# Altium schematic symbol library Compilation.SchLib: 307 symbols (part 3 of 4)
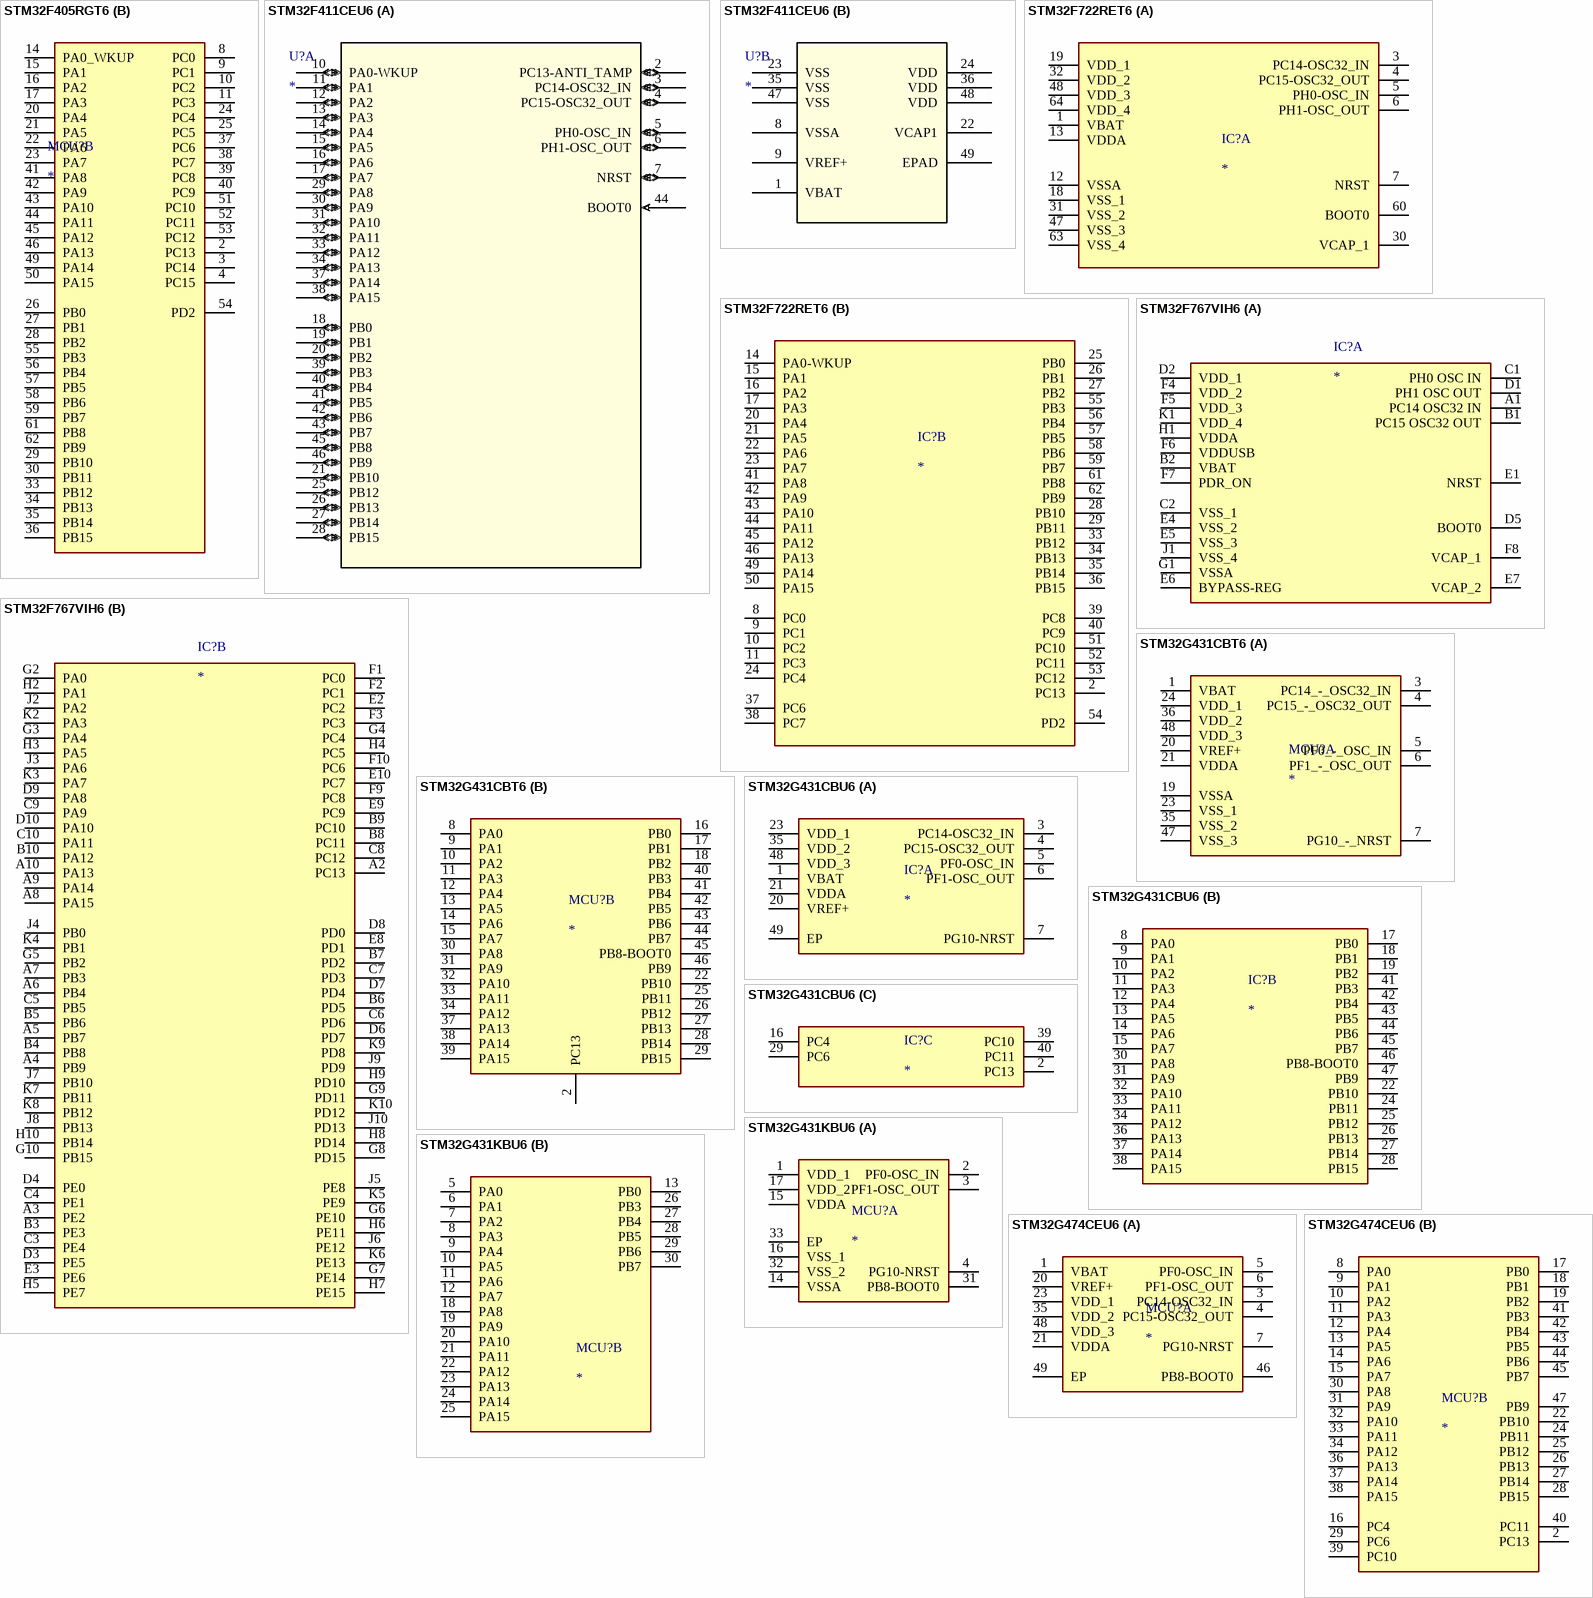
[diagram p19: symbols STM32F405RGT6 to STM32G474CEU6]

## STM32G431KBU6
designator MCU?
MCU; Manufacturer_Name: STMicroelectronics; Manufacturer_Part_Number: STM32G431KBU6; Datasheet Link: https://www.st.com/resource/en/datasheet/stm32g431kb.pdf; Height: 0.6mm; Mouser Part Number: 511-STM32G431KBU6; Mouser Price/Stock: https://www.mouser.co.uk/ProductDetail/STMicroelectronics/STM32G431KBU6?qs=T3oQrply3y%2Frk9w4R%2FCLxg%3D%3D; Arrow Part Number: STM32G431KBU6; Arrow Price/Stock: https://www.arrow.com/en/products/stm32g431kbu6/stmicroelectronics?region=nac
footprint UFQFPN32
part A pins: 1 VDD_1, 2 PF0-OSC_IN, 3 PF1-OSC_OUT, 4 PG10-NRST, 14 VSSA, 15 VDDA, 16 VSS_1, 17 VDD_2, 31 PB8-BOOT0, 32 VSS_2, 33 EP
part B pins: 5 PA0, 6 PA1, 7 PA2, 8 PA3, 9 PA4, 10 PA5, 11 PA6, 12 PA7, 13 PB0, 18 PA8, 19 PA9, 20 PA10, 21 PA11, 22 PA12, 23 PA13, 24 PA14, 25 PA15, 26 PB3, 27 PB4, 28 PB5, 29 PB6, 30 PB7

## STM32G474CEU6
designator MCU?
MCU; Manufacturer_Name: STMicroelectronics; Manufacturer_Part_Number: STM32G474CEU6; Datasheet Link: https://www.st.com/resource/en/datasheet/stm32g474ce.pdf; Height: 0.6mm; Mouser Part Number: 511-STM32G474CEU6; Mouser Price/Stock: https://www.mouser.co.uk/ProductDetail/STMicroelectronics/STM32G474CEU6?qs=PzGy0jfpSMvczLLzMNbcpg%3D%3D; Arrow Part Number: STM32G474CEU6; Arrow Price/Stock: https://www.arrow.com/en/products/stm32g474ceu6/stmicroelectronics?region=nac
footprint UFQFPN48
part A pins: 1 VBAT, 3 PC14-OSC32_IN, 4 PC15-OSC32_OUT, 5 PF0-OSC_IN, 6 PF1-OSC_OUT, 7 PG10-NRST, 20 VREF+, 21 VDDA, 23 VDD_1, 35 VDD_2, 46 PB8-BOOT0, 48 VDD_3, 49 EP
part B pins: 2 PC13, 8 PA0, 9 PA1, 10 PA2, 11 PA3, 12 PA4, 13 PA5, 14 PA6, 15 PA7, 16 PC4, 17 PB0, 18 PB1, 19 PB2, 22 PB10, 24 PB11, 25 PB12, 26 PB13, 27 PB14, 28 PB15, 29 PC6, 30 PA8, 31 PA9, 32 PA10, 33 PA11, 34 PA12, 36 PA13, 37 PA14, 38 PA15, 39 PC10, 40 PC11, 41 PB3, 42 PB4, 43 PB5, 44 PB6, 45 PB7, 47 PB9

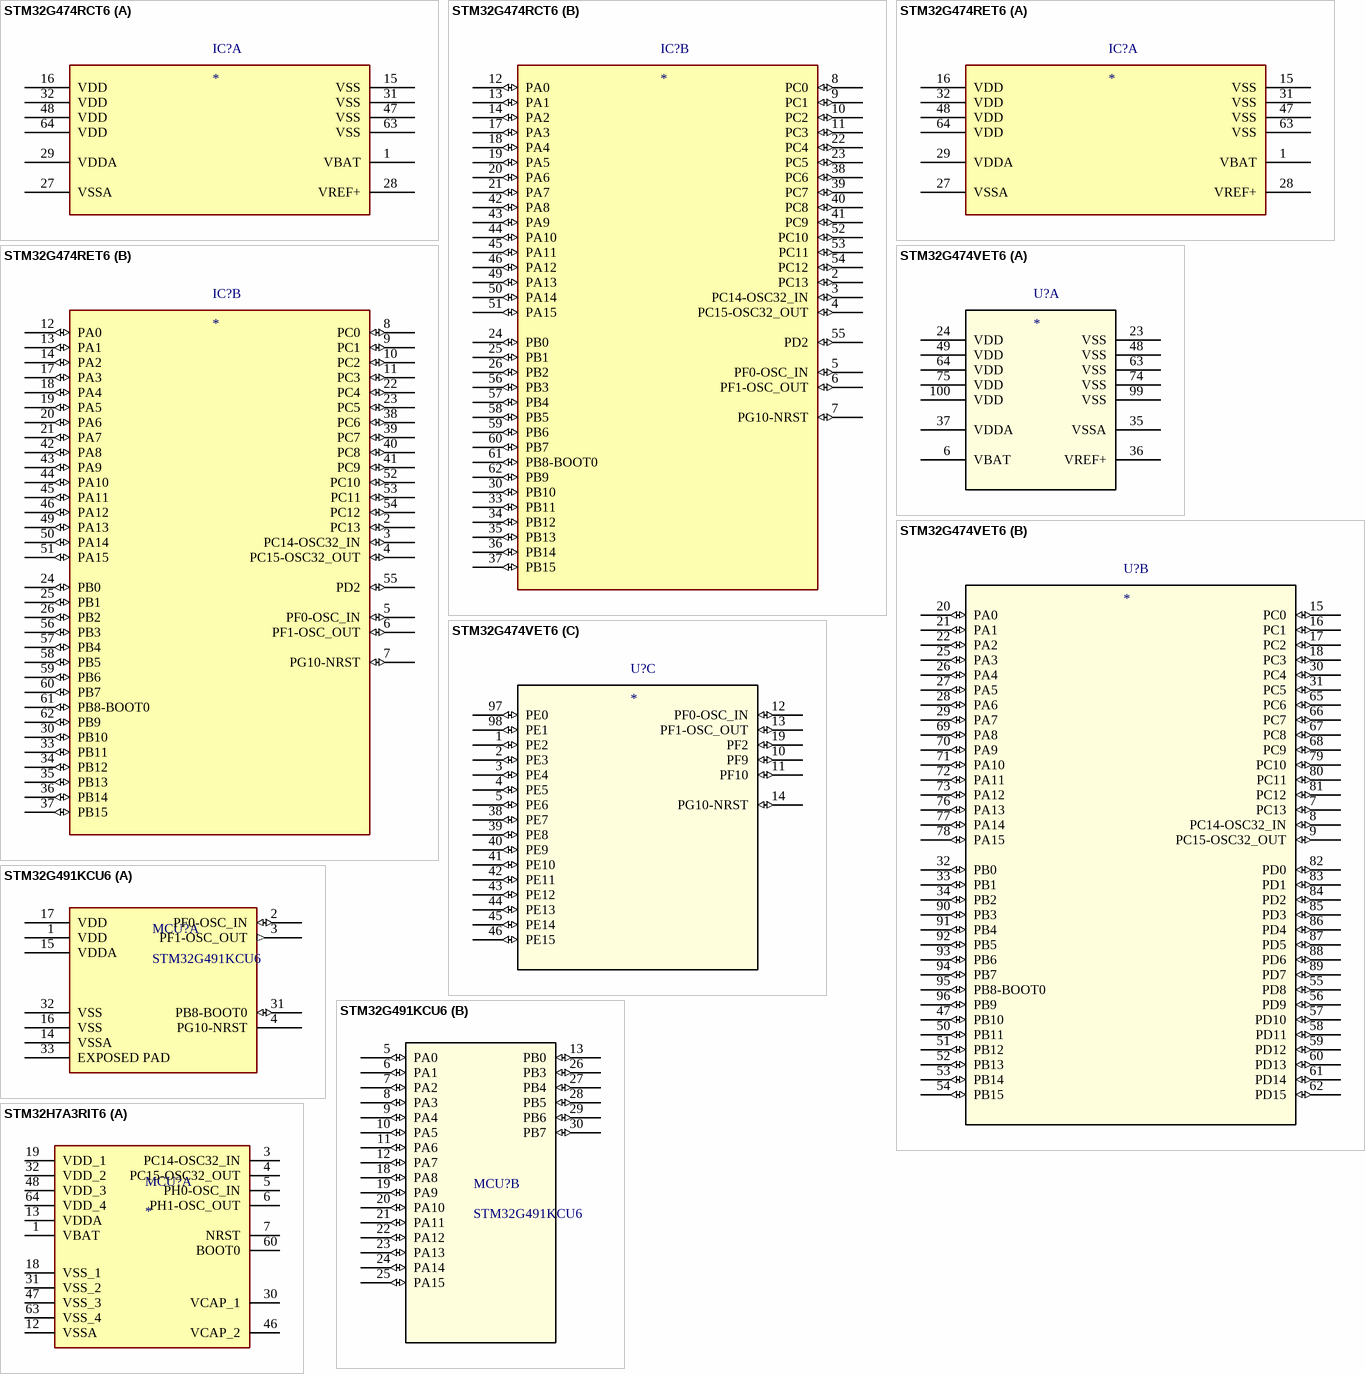
[diagram p8: symbols STM32G474RCT6 to STM32H7A3RIT6]

## STM32G474RCT6
designator IC?
MCU
footprint LQFP64
part A pins: 1 VBAT (power), 15 VSS (power), 16 VDD (power), 27 VSSA (power), 28 VREF+ (power), 29 VDDA (power), 31 VSS (power), 32 VDD (power), 47 VSS (power), 48 VDD (power), 63 VSS (power), 64 VDD (power)
part B pins: 2 PC13 (io), 3 PC14-OSC32_IN (io), 4 PC15-OSC32_OUT (io), 5 PF0-OSC_IN (io), 6 PF1-OSC_OUT (io), 7 PG10-NRST (io), 8 PC0 (io), 9 PC1 (io), 10 PC2 (io), 11 PC3 (io), 12 PA0 (io), 13 PA1 (io), 14 PA2 (io), 17 PA3 (io), 18 PA4 (io), 19 PA5 (io), 20 PA6 (io), 21 PA7 (io), 22 PC4 (io), 23 PC5 (io), 24 PB0 (io), 25 PB1 (io), 26 PB2 (io), 30 PB10 (io), 33 PB11 (io), 34 PB12 (io), 35 PB13 (io), 36 PB14 (io), 37 PB15 (io), 38 PC6 (io), 39 PC7 (io), 40 PC8 (io), 41 PC9 (io), 42 PA8 (io), 43 PA9 (io), 44 PA10 (io), 45 PA11 (io), 46 PA12 (io), 49 PA13 (io), 50 PA14 (io), 51 PA15 (io), 52 PC10 (io), 53 PC11 (io), 54 PC12 (io), 55 PD2 (io), 56 PB3 (io), 57 PB4 (io), 58 PB5 (io), 59 PB6 (io), 60 PB7 (io), 61 PB8-BOOT0 (io), 62 PB9 (io)

## STM32G474RET6
designator IC?
MCU
footprint LQFP64
part A pins: 1 VBAT (power), 15 VSS (power), 16 VDD (power), 27 VSSA (power), 28 VREF+ (power), 29 VDDA (power), 31 VSS (power), 32 VDD (power), 47 VSS (power), 48 VDD (power), 63 VSS (power), 64 VDD (power)
part B pins: 2 PC13 (io), 3 PC14-OSC32_IN (io), 4 PC15-OSC32_OUT (io), 5 PF0-OSC_IN (io), 6 PF1-OSC_OUT (io), 7 PG10-NRST (io), 8 PC0 (io), 9 PC1 (io), 10 PC2 (io), 11 PC3 (io), 12 PA0 (io), 13 PA1 (io), 14 PA2 (io), 17 PA3 (io), 18 PA4 (io), 19 PA5 (io), 20 PA6 (io), 21 PA7 (io), 22 PC4 (io), 23 PC5 (io), 24 PB0 (io), 25 PB1 (io), 26 PB2 (io), 30 PB10 (io), 33 PB11 (io), 34 PB12 (io), 35 PB13 (io), 36 PB14 (io), 37 PB15 (io), 38 PC6 (io), 39 PC7 (io), 40 PC8 (io), 41 PC9 (io), 42 PA8 (io), 43 PA9 (io), 44 PA10 (io), 45 PA11 (io), 46 PA12 (io), 49 PA13 (io), 50 PA14 (io), 51 PA15 (io), 52 PC10 (io), 53 PC11 (io), 54 PC12 (io), 55 PD2 (io), 56 PB3 (io), 57 PB4 (io), 58 PB5 (io), 59 PB6 (io), 60 PB7 (io), 61 PB8-BOOT0 (io), 62 PB9 (io)

## STM32G474VET6
designator U?
MCU; Mfr_Name: STMicroelectronics; RefDes: RefDes; Type: Type
footprint LQFP100
part A pins: 6 VBAT (power), 23 VSS (power), 24 VDD (power), 35 VSSA (power), 36 VREF+ (power), 37 VDDA (power), 48 VSS (power), 49 VDD (power), 63 VSS (power), 64 VDD (power), 74 VSS (power), 75 VDD (power), 99 VSS (power), 100 VDD (power)
part B pins: 7 PC13 (io), 8 PC14-OSC32_IN (io), 9 PC15-OSC32_OUT (io), 15 PC0 (io), 16 PC1 (io), 17 PC2 (io), 18 PC3 (io), 20 PA0 (io), 21 PA1 (io), 22 PA2 (io), 25 PA3 (io), 26 PA4 (io), 27 PA5 (io), 28 PA6 (io), 29 PA7 (io), 30 PC4 (io), 31 PC5 (io), 32 PB0 (io), 33 PB1 (io), 34 PB2 (io), 47 PB10 (io), 50 PB11 (io), 51 PB12 (io), 52 PB13 (io), 53 PB14 (io), 54 PB15 (io), 55 PD8 (io), 56 PD9 (io), 57 PD10 (io), 58 PD11 (io), 59 PD12 (io), 60 PD13 (io), 61 PD14 (io), 62 PD15 (io), 65 PC6 (io), 66 PC7 (io), 67 PC8 (io), 68 PC9 (io), 69 PA8 (io), 70 PA9 (io), 71 PA10 (io), 72 PA11 (io), 73 PA12 (io), 76 PA13 (io), 77 PA14 (io), 78 PA15 (io), 79 PC10 (io), 80 PC11 (io), 81 PC12 (io), 82 PD0 (io), 83 PD1 (io), 84 PD2 (io), 85 PD3 (io), 86 PD4 (io), 87 PD5 (io), 88 PD6 (io), 89 PD7 (io), 90 PB3 (io), 91 PB4 (io), 92 PB5 (io), 93 PB6 (io), 94 PB7 (io), 95 PB8-BOOT0 (io), 96 PB9 (io)
part C pins: 1 PE2 (io), 2 PE3 (io), 3 PE4 (io), 4 PE5 (io), 5 PE6 (io), 10 PF9 (io), 11 PF10 (io), 12 PF0-OSC_IN (io), 13 PF1-OSC_OUT (io), 14 PG10-NRST (io), 19 PF2 (io), 38 PE7 (io), 39 PE8 (io), 40 PE9 (io), 41 PE10 (io), 42 PE11 (io), 43 PE12 (io), 44 PE13 (io), 45 PE14 (io), 46 PE15 (io), 97 PE0 (io), 98 PE1 (io)

## STM32G491KCU6
designator MCU?
MCU; Mfr_Name: STMicroelectronics; Copyright: Copyright (C) 2022 Ultra Librarian. All rights reserved.; Manufacturer_Part_Number: STM32G491KCU6; RefDes: RefDes; Type: DEV
footprint UFQFPN32
part A pins: 1 VDD (power), 2 PF0-OSC_IN (io), 3 PF1-OSC_OUT (out), 4 PG10-NRST, 14 VSSA, 15 VDDA (power), 16 VSS, 17 VDD (power), 31 PB8-BOOT0 (io), 32 VSS, 33 EXPOSED PAD
part B pins: 5 PA0 (io), 6 PA1 (io), 7 PA2 (io), 8 PA3 (io), 9 PA4 (io), 10 PA5 (io), 11 PA6 (io), 12 PA7 (io), 13 PB0 (io), 18 PA8 (io), 19 PA9 (io), 20 PA10 (io), 21 PA11 (io), 22 PA12 (io), 23 PA13 (io), 24 PA14 (io), 25 PA15 (io), 26 PB3 (io), 27 PB4 (io), 28 PB5 (io), 29 PB6 (io), 30 PB7 (io)

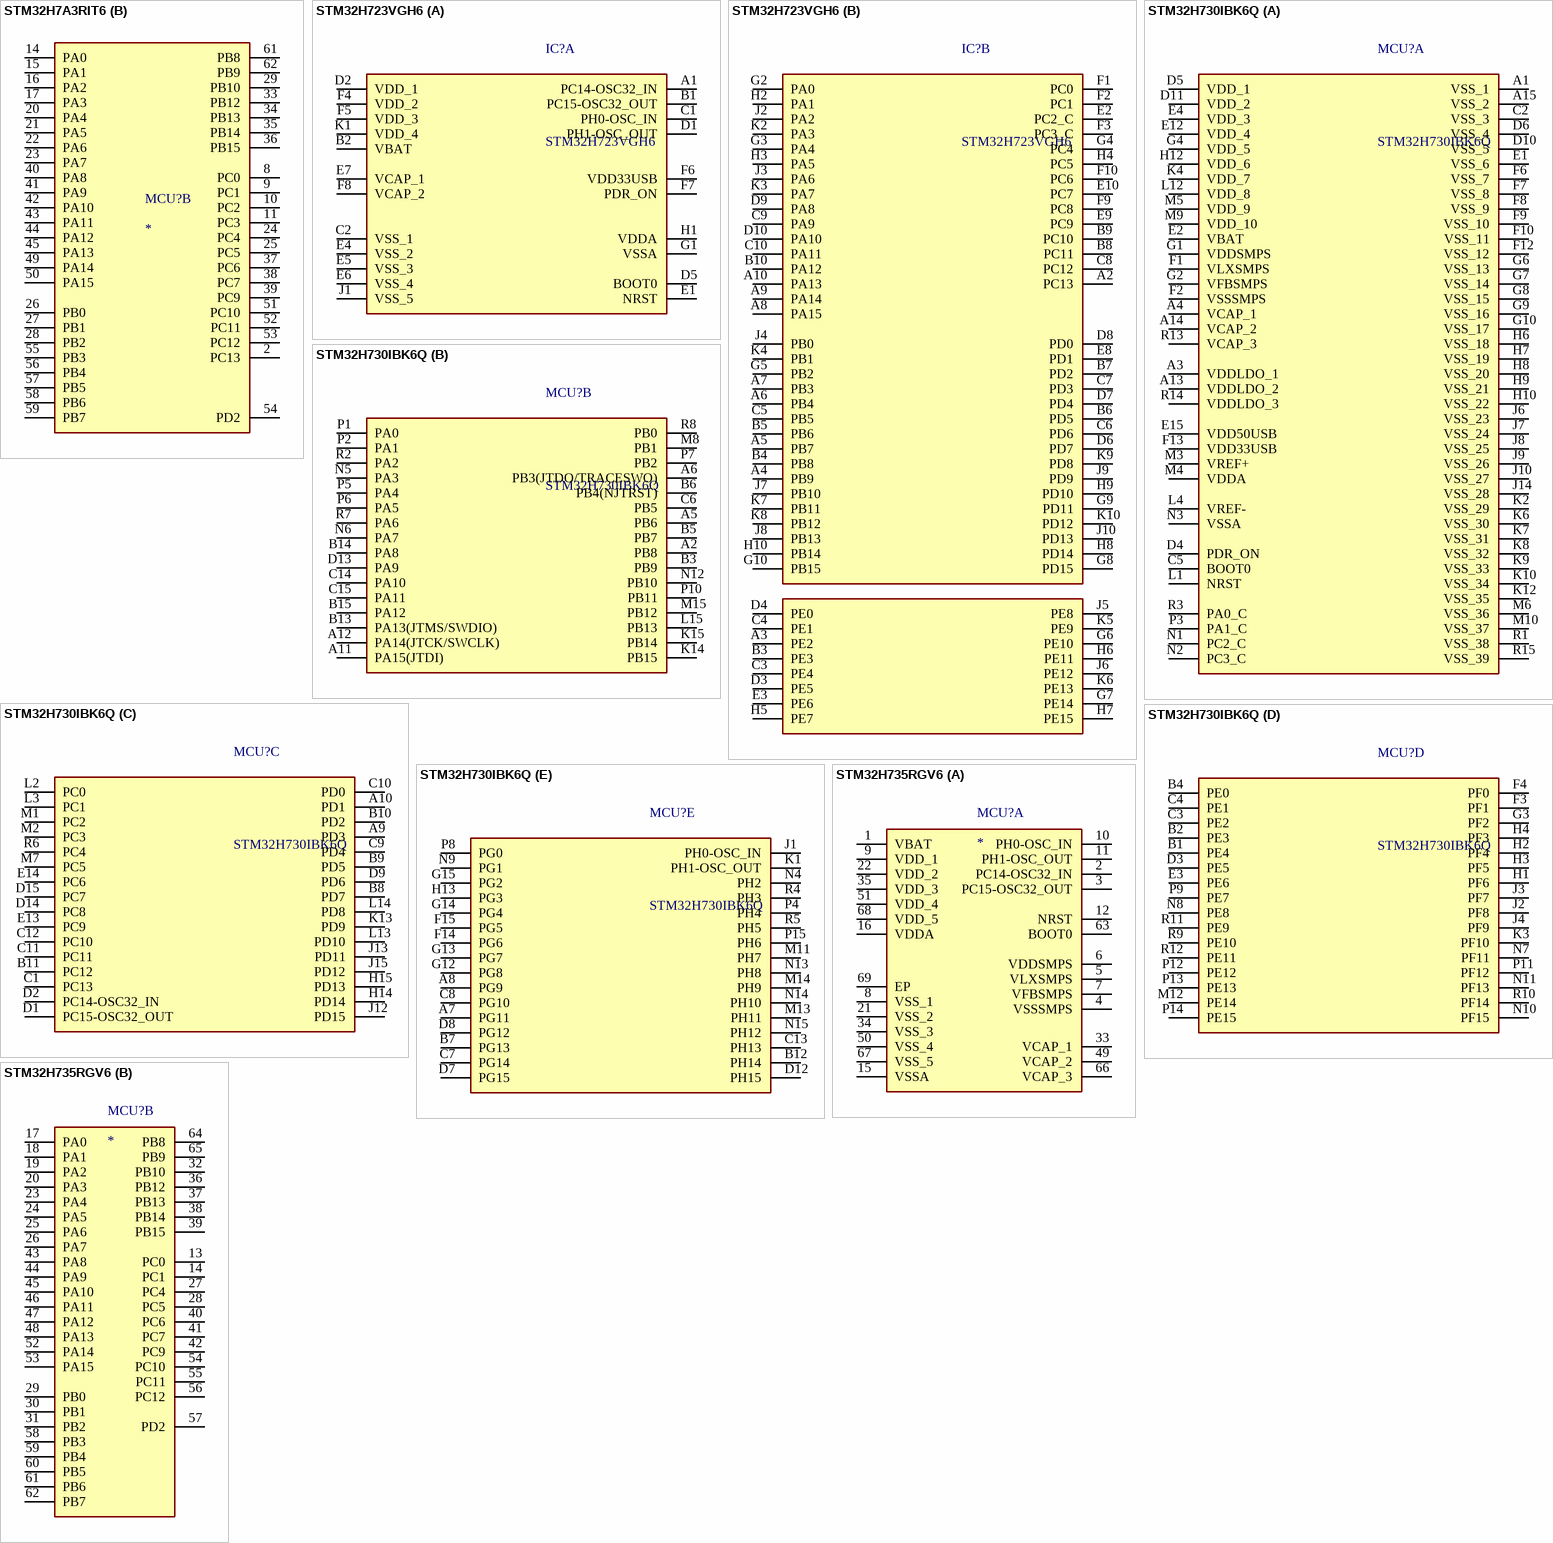
[diagram p9: symbols STM32H7A3RIT6 to STM32H735RGV6]

## STM32H7A3RIT6
designator MCU?
MCU; Manufacturer_Name: STMicroelectronics; Manufacturer_Part_Number: STM32H7A3RIT6; Datasheet Link: https://www.st.com/resource/en/datasheet/stm32h7a3ai.pdf; Height: 1.6mm; Mouser Part Number: 511-STM32H7A3RIT6; Mouser Price/Stock: https://www.mouser.co.uk/ProductDetail/STMicroelectronics/STM32H7A3RIT6?qs=xZ%2FP%252Ba9zWqZAEQXxnLVEdg%3D%3D; Arrow Part Number: STM32H7A3RIT6; Arrow Price/Stock: https://www.arrow.com/en/products/stm32h7a3rit6/stmicroelectronics
footprint LQFP64
part A pins: 1 VBAT, 3 PC14-OSC32_IN, 4 PC15-OSC32_OUT, 5 PH0-OSC_IN, 6 PH1-OSC_OUT, 7 NRST, 12 VSSA, 13 VDDA, 18 VSS_1, 19 VDD_1, 30 VCAP_1, 31 VSS_2, 32 VDD_2, 46 VCAP_2, 47 VSS_3, 48 VDD_3, 60 BOOT0, 63 VSS_4, 64 VDD_4
part B pins: 2 PC13, 8 PC0, 9 PC1, 10 PC2, 11 PC3, 14 PA0, 15 PA1, 16 PA2, 17 PA3, 20 PA4, 21 PA5, 22 PA6, 23 PA7, 24 PC4, 25 PC5, 26 PB0, 27 PB1, 28 PB2, 29 PB10, 33 PB12, 34 PB13, 35 PB14, 36 PB15, 37 PC6, 38 PC7, 39 PC9, 40 PA8, 41 PA9, 42 PA10, 43 PA11, 44 PA12, 45 PA13, 49 PA14, 50 PA15, 51 PC10, 52 PC11, 53 PC12, 54 PD2, 55 PB3, 56 PB4, 57 PB5, 58 PB6, 59 PB7, 61 PB8, 62 PB9

## STM32H723VGH6
designator IC?
MCU; Manufacturer_Name: STMicroelectronics; Geometry.Height: 1.1mm; Manufacturer_Part_Number: STM32H723VGH6; Mouser Part Number: 511-STM32H723VGH6; Mouser Price/Stock: https://www.mouser.co.uk/ProductDetail/STMicroelectronics/STM32H723VGH6?qs=sPbYRqrBIVm5sQ3RWXT4fQ%3D%3D; Arrow Part Number: STM32H723VGH6; Arrow Price/Stock: https://www.arrow.com/en/products/stm32h723vgh6/stmicroelectronics?region=nac; Datasheet Link: https://eu.mouser.com/datasheet/2/389/dm00701028-2042058.pdf
footprint TFBGA100
part A pins: A1 PC14-OSC32_IN, B1 PC15-OSC32_OUT, B2 VBAT, C1 PH0-OSC_IN, C2 VSS_1, D1 PH1-OSC_OUT, D2 VDD_1, D5 BOOT0, E1 NRST, E4 VSS_2, E5 VSS_3, E6 VSS_4, E7 VCAP_1, F4 VDD_2, F5 VDD_3, F6 VDD33USB, F7 PDR_ON, F8 VCAP_2, G1 VSSA, H1 VDDA, J1 VSS_5, K1 VDD_4
part B pins: A2 PC13, A3 PE2, A4 PB9, A5 PB7, A6 PB4, A7 PB3, A8 PA15, A9 PA14, A10 PA13, B3 PE3, B4 PB8, B5 PB6, B6 PD5, B7 PD2, B8 PC11, B9 PC10, B10 PA12, C3 PE4, C4 PE1, C5 PB5, C6 PD6, C7 PD3, C8 PC12, C9 PA9, C10 PA11, D3 PE5, D4 PE0, D6 PD7, D7 PD4, D8 PD0, D9 PA8, D10 PA10, E2 PC2_C, E3 PE6, E8 PD1, E9 PC9, E10 PC7, F1 PC0, F2 PC1, F3 PC3_C, F9 PC8, F10 PC6, G2 PA0, G3 PA4, G4 PC4, G5 PB2, G6 PE10, G7 PE14, G8 PD15, G9 PD11, G10 PB15, H2 PA1, H3 PA5, H4 PC5, H5 PE7, H6 PE11, H7 PE15, H8 PD14, H9 PD10, H10 PB14, J2 PA2, J3 PA6, J4 PB0, J5 PE8, J6 PE12, J7 PB10, J8 PB13, J9 PD9, J10 PD13, K2 PA3, K3 PA7, K4 PB1, K5 PE9, K6 PE13, K7 PB11, K8 PB12, K9 PD8, K10 PD12

## STM32H730IBK6Q
designator MCU?
MCU; Manufacturer_Name: STMicroelectronics; Geometry.Height: 0.6mm; Manufacturer_Part_Number: STM32H730IBK6Q; Mouser Part Number: 511-STM32H730IBK6Q; Mouser Price/Stock: https://www.mouser.co.uk/ProductDetail/STMicroelectronics/STM32H730IBK6Q?qs=sPbYRqrBIVlxt2HLanG%2FFQ%3D%3D; Arrow Part Number: STM32H730IBK6Q; Arrow Price/Stock: https://www.arrow.com/en/products/stm32h730ibk6q/stmicroelectronics?region=nac; Datasheet Link: https://www.st.com/resource/en/datasheet/stm32h730ab.pdf
footprint UFBGA176+25
part A pins: A1 VSS_1, A3 VDDLDO_1, A4 VCAP_1, A13 VDDLDO_2, A14 VCAP_2, A15 VSS_2, C2 VSS_3, C5 BOOT0, D4 PDR_ON, D5 VDD_1, D6 VSS_4, D10 VSS_5, D11 VDD_2, E1 VSS_6, E2 VBAT, E4 VDD_3, E12 VDD_4, E15 VDD50USB, F1 VLXSMPS, F2 VSSSMPS, F6 VSS_7, F7 VSS_8, F8 VSS_9, F9 VSS_10, F10 VSS_11, F12 VSS_12, F13 VDD33USB, G1 VDDSMPS, G2 VFBSMPS, G4 VDD_5, G6 VSS_13, G7 VSS_14, G8 VSS_15, G9 VSS_16, G10 VSS_17, H6 VSS_18, H7 VSS_19, H8 VSS_20, H9 VSS_21, H10 VSS_22, H12 VDD_6, J6 VSS_23, J7 VSS_24, J8 VSS_25, J9 VSS_26, J10 VSS_27, J14 VSS_28, K2 VSS_29, K4 VDD_7, K6 VSS_30, K7 VSS_31, K8 VSS_32, K9 VSS_33, K10 VSS_34, K12 VSS_35, L1 NRST, L4 VREF-, L12 VDD_8, M3 VREF+, M4 VDDA, M5 VDD_9, M6 VSS_36, M9 VDD_10, M10 VSS_37, N1 PC2_C, N2 PC3_C, N3 VSSA, P3 PA1_C, R1 VSS_38, R3 PA0_C, R13 VCAP_3, R14 VDDLDO_3, R15 VSS_39
part B pins: A2 PB8, A5 PB6, A6 PB3(JTDO/TRACESWO), A11 PA15(JTDI), A12 PA14(JTCK/SWCLK), B3 PB9, B5 PB7, B6 PB4(NJTRST), B13 PA13(JTMS/SWDIO), B14 PA8, B15 PA12, C6 PB5, C14 PA10, C15 PA11, D13 PA9, K14 PB15, K15 PB14, L15 PB13, M8 PB1, M15 PB12, N5 PA3, N6 PA7, N12 PB10, P1 PA0, P2 PA1, P5 PA4, P6 PA5, P7 PB2, P10 PB11, R2 PA2, R7 PA6, R8 PB0
part C pins: A9 PD3, A10 PD1, B8 PD7, B9 PD5, B10 PD2, B11 PC12, C1 PC13, C9 PD4, C10 PD0, C11 PC11, C12 PC10, D1 PC15-OSC32_OUT, D2 PC14-OSC32_IN, D9 PD6, D14 PC8, D15 PC7, E13 PC9, E14 PC6, H14 PD14, H15 PD13, J12 PD15, J13 PD11, J15 PD12, K13 PD9, L2 PC0, L3 PC1, L13 PD10, L14 PD8, M1 PC2, M2 PC3, M7 PC5, R6 PC4
part D pins: B1 PE4, B2 PE3, B4 PE0, C3 PE2, C4 PE1, D3 PE5, E3 PE6, F3 PF1, F4 PF0, G3 PF2, H1 PF6, H2 PF4, H3 PF5, H4 PF3, J2 PF8, J3 PF7, J4 PF9, K3 PF10, M12 PE14, N7 PF11, N8 PE8, N10 PF15, N11 PF13, P9 PE7, P11 PF12, P12 PE12, P13 PE13, P14 PE15, R9 PE10, R10 PF14, R11 PE9, R12 PE11
part E pins: A7 PG11, A8 PG9, B7 PG13, B12 PH14, C7 PG14, C8 PG10, C13 PH13, D7 PG15, D8 PG12, D12 PH15, F14 PG6, F15 PG5, G12 PG8, G13 PG7, G14 PG4, G15 PG2, H13 PG3, J1 PH0-OSC_IN, K1 PH1-OSC_OUT, M11 PH7, M13 PH11, M14 PH9, N4 PH2, N9 PG1, N13 PH8, N14 PH10, N15 PH12, P4 PH4, P8 PG0, P15 PH6, R4 PH3, R5 PH5

## STM32H735RGV6
designator MCU?
MCU; Manufacturer_Name: STMicroelectronics; Manufacturer_Part_Number: STM32H735RGV6; Datasheet Link: https://au.mouser.com/datasheet/2/389/dm00701023-2042184.pdf; Height: 1mm; Mouser Part Number: 511-STM32H735RGV6; Mouser Price/Stock: https://www.mouser.co.uk/ProductDetail/STMicroelectronics/STM32H735RGV6?qs=sPbYRqrBIVkWLN6u9fcqQg%3D%3D
footprint VFQFPN68
part A pins: 1 VBAT, 2 PC14-OSC32_IN, 3 PC15-OSC32_OUT, 4 VSSSMPS, 5 VLXSMPS, 6 VDDSMPS, 7 VFBSMPS, 8 VSS_1, 9 VDD_1, 10 PH0-OSC_IN, 11 PH1-OSC_OUT, 12 NRST, 15 VSSA, 16 VDDA, 21 VSS_2, 22 VDD_2, 33 VCAP_1, 34 VSS_3, 35 VDD_3, 49 VCAP_2, 50 VSS_4, 51 VDD_4, 63 BOOT0, 66 VCAP_3, 67 VSS_5, 68 VDD_5, 69 EP
part B pins: 13 PC0, 14 PC1, 17 PA0, 18 PA1, 19 PA2, 20 PA3, 23 PA4, 24 PA5, 25 PA6, 26 PA7, 27 PC4, 28 PC5, 29 PB0, 30 PB1, 31 PB2, 32 PB10, 36 PB12, 37 PB13, 38 PB14, 39 PB15, 40 PC6, 41 PC7, 42 PC9, 43 PA8, 44 PA9, 45 PA10, 46 PA11, 47 PA12, 48 PA13, 52 PA14, 53 PA15, 54 PC10, 55 PC11, 56 PC12, 57 PD2, 58 PB3, 59 PB4, 60 PB5, 61 PB6, 62 PB7, 64 PB8, 65 PB9

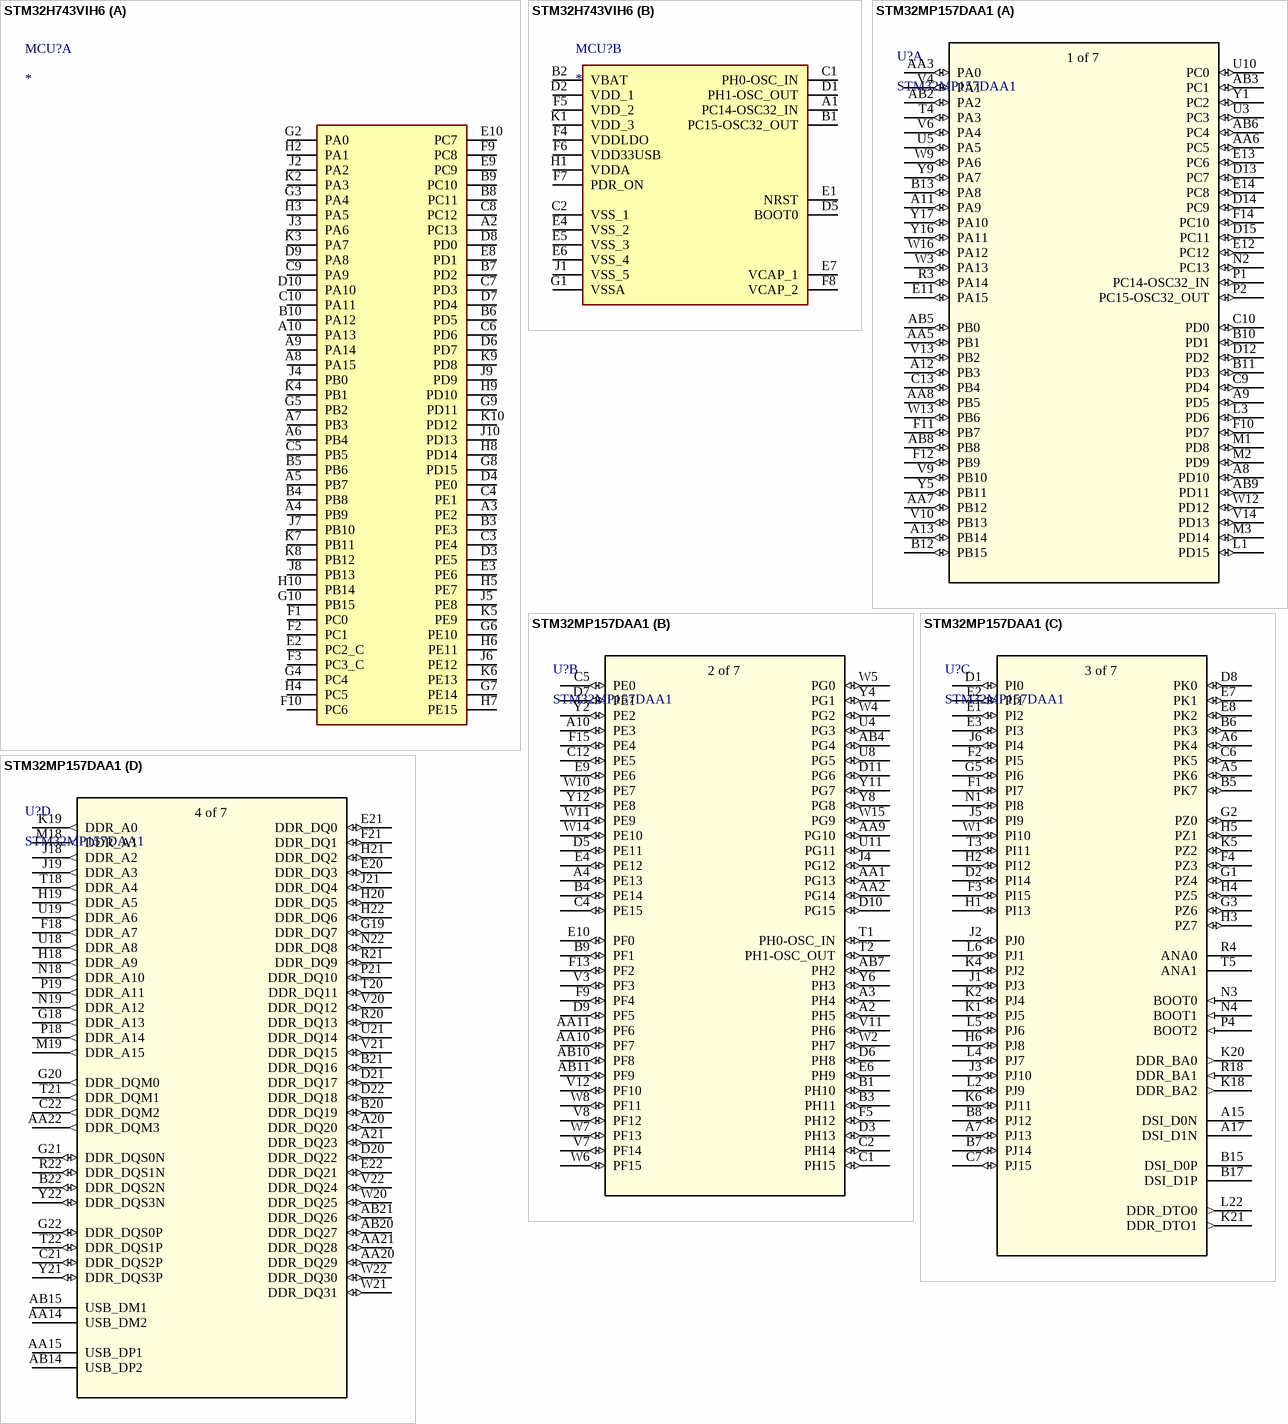
[diagram p10: symbols STM32H743VIH6 to STM32MP157DAA1]

## STM32H743VIH6
designator MCU?
MCU; Manufacturer_Name: STMicroelectronics; Manufacturer_Part_Number: STM32H743VIH6; Datasheet Link: https://www.st.com/resource/en/datasheet/stm32h743vi.pdf; Height: 1.1mm; Mouser Part Number: 511-STM32H743VIH6; Mouser Price/Stock: https://www.mouser.co.uk/ProductDetail/STMicroelectronics/STM32H743VIH6?qs=EU6FO9ffTwep%252BmI4YnA3%2Fw%3D%3D; Arrow Part Number: STM32H743VIH6; Arrow Price/Stock: https://www.arrow.com/en/products/stm32h743vih6/stmicroelectronics?region=nac
footprint TFBGA100
part A pins: A2 PC13, A3 PE2, A4 PB9, A5 PB7, A6 PB4, A7 PB3, A8 PA15, A9 PA14, A10 PA13, B3 PE3, B4 PB8, B5 PB6, B6 PD5, B7 PD2, B8 PC11, B9 PC10, B10 PA12, C3 PE4, C4 PE1, C5 PB5, C6 PD6, C7 PD3, C8 PC12, C9 PA9, C10 PA11, D3 PE5, D4 PE0, D6 PD7, D7 PD4, D8 PD0, D9 PA8, D10 PA10, E2 PC2_C, E3 PE6, E8 PD1, E9 PC9, E10 PC7, F1 PC0, F2 PC1, F3 PC3_C, F9 PC8, F10 PC6, G2 PA0, G3 PA4, G4 PC4, G5 PB2, G6 PE10, G7 PE14, G8 PD15, G9 PD11, G10 PB15, H2 PA1, H3 PA5, H4 PC5, H5 PE7, H6 PE11, H7 PE15, H8 PD14, H9 PD10, H10 PB14, J2 PA2, J3 PA6, J4 PB0, J5 PE8, J6 PE12, J7 PB10, J8 PB13, J9 PD9, J10 PD13, K2 PA3, K3 PA7, K4 PB1, K5 PE9, K6 PE13, K7 PB11, K8 PB12, K9 PD8, K10 PD12
part B pins: A1 PC14-OSC32_IN, B1 PC15-OSC32_OUT, B2 VBAT, C1 PH0-OSC_IN, C2 VSS_1, D1 PH1-OSC_OUT, D2 VDD_1, D5 BOOT0, E1 NRST, E4 VSS_2, E5 VSS_3, E6 VSS_4, E7 VCAP_1, F4 VDDLDO, F5 VDD_2, F6 VDD33USB, F7 PDR_ON, F8 VCAP_2, G1 VSSA, H1 VDDA, J1 VSS_5, K1 VDD_3

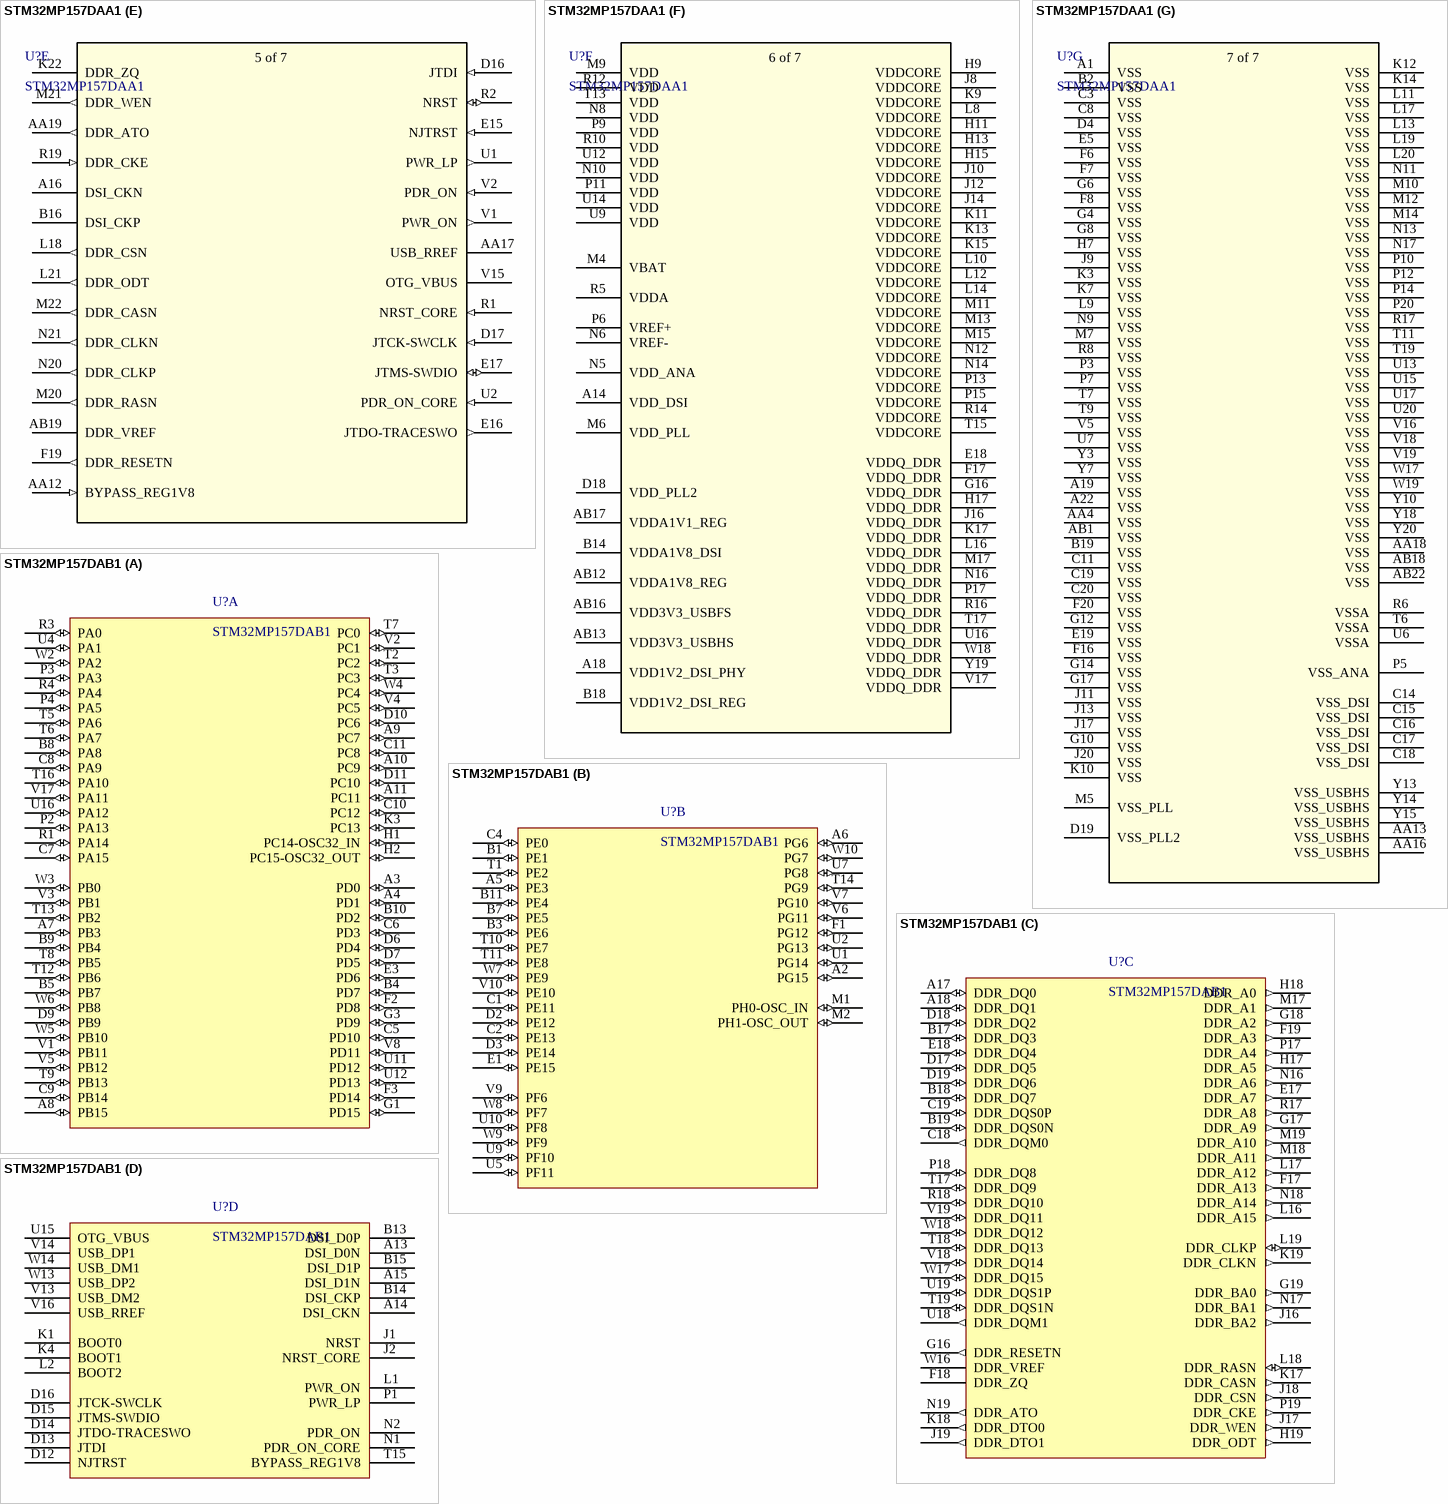
[diagram p11: symbols STM32MP157DAA1 to STM32MP157DAB1]

## STM32MP157DAA1
designator U?
MPU; Mfr_Name: STMicroelectronics; Copyright: Copyright (C) 2023 Ultra Librarian. All rights reserved.; Manufacturer_Part_Number: STM32MP157DAA1; RefDes: RefDes; Type: DEV
footprint LFBGA448_18X18_STM
footprint LFBGA448
part A pins: A8 PD10 (io), A9 PD5 (io), A11 PA9 (io), A12 PB3 (io), A13 PB14 (io), AA3 PA0 (io), AA5 PB1 (io), AA6 PC5 (io), AA7 PB12 (io), AA8 PB5 (io), AB2 PA2 (io), AB3 PC1 (io), AB5 PB0 (io), AB6 PC4 (io), AB8 PB8 (io), AB9 PD11 (io), B10 PD1 (io), B11 PD3 (io), B12 PB15 (io), B13 PA8 (io), C9 PD4 (io), C10 PD0 (io), C13 PB4 (io), D12 PD2 (io), D13 PC7 (io), D14 PC9 (io), D15 PC11 (io), E11 PA15 (io), E12 PC12 (io), E13 PC6 (io), E14 PC8 (io), F10 PD7 (io), F11 PB7 (io), F12 PB9 (io), F14 PC10 (io), L1 PD15 (io), L3 PD6 (io), M1 PD8 (io), M2 PD9 (io), M3 PD14 (io), N2 PC13 (io), P1 PC14-OSC32_IN (io), P2 PC15-OSC32_OUT (io), R3 PA14 (io), T4 PA3 (io), U3 PC3 (io), U5 PA5 (io), U10 PC0 (io), V4 PA1 (io), V6 PA4 (io), V9 PB10 (io), V10 PB13 (io), V13 PB2 (io), V14 PD13 (io), W3 PA13 (io), W9 PA6 (io), W12 PD12 (io), W13 PB6 (io), W16 PA12 (io), Y1 PC2 (io), Y5 PB11 (io), Y9 PA7 (io), Y16 PA11 (io), Y17 PA10 (io)
part B pins: A2 PH5 (io), A3 PH4 (io), A4 PE13 (io), A10 PE3 (io), AA1 PG13 (io), AA2 PG14 (io), AA9 PG10 (io), AA10 PF7 (io), AA11 PF6 (io), AB4 PG4 (io), AB7 PH2 (io), AB10 PF8 (io), AB11 PF9 (io), B1 PH10 (io), B3 PH11 (io), B4 PE14 (io), B9 PF1 (io), C1 PH15 (io), C2 PH14 (io), C4 PE15 (io), C5 PE0 (io), C12 PE5 (io), D3 PH13 (io), D5 PE11 (io), D6 PH8 (io), D7 PE1 (io), D9 PF5 (io), D10 PG15 (io), D11 PG6 (io), E4 PE12 (io), E6 PH9 (io), E9 PE6 (io), E10 PF0 (io), F5 PH12 (io), F9 PF4 (io), F13 PF2 (io), F15 PE4 (io), J4 PG12 (io), T1 PH0-OSC_IN (io), T2 PH1-OSC_OUT (io), U4 PG3 (io), U8 PG5 (io), U11 PG11 (io), V3 PF3 (io), V7 PF14 (io), V8 PF12 (io), V11 PH6 (io), V12 PF10 (io), W2 PH7 (io), W4 PG2 (io), W5 PG0 (io), W6 PF15 (io), W7 PF13 (io), W8 PF11 (io), W10 PE7 (io), W11 PE9 (io), W14 PE10 (io), W15 PG9 (io), Y2 PE2 (io), Y4 PG1 (io), Y6 PH3 (io), Y8 PG8 (io), Y11 PG7 (io), Y12 PE8 (io)
part C pins: A5 PK6 (io), A6 PK4 (io), A7 PJ13 (io), A15 DSI_D0N, A17 DSI_D1N, B5 PK7 (io), B6 PK3 (io), B7 PJ14 (io), B8 PJ12 (io), B15 DSI_D0P, B17 DSI_D1P, C6 PK5 (io), C7 PJ15 (io), D1 PI0 (io), D2 PI14 (io), D8 PK0 (io), E1 PI2 (io), E2 PI1 (io), E3 PI3 (io), E7 PK1 (io), E8 PK2 (io), F1 PI7 (io), F2 PI5 (io), F3 PI15 (io), F4 PZ3 (io), G1 PZ4 (io), G2 PZ0 (io), G3 PZ6 (io), G5 PI6 (io), H1 PI13 (io), H2 PI12 (io), H3 PZ7 (io), H4 PZ5 (io), H5 PZ1 (io), H6 PJ8 (io), J1 PJ3 (io), J2 PJ0 (io), J3 PJ10 (io), J5 PI9 (io), J6 PI4 (io), K1 PJ5 (io), K2 PJ4 (io), K4 PJ2 (io), K5 PZ2 (io), K6 PJ11 (io), K18 DDR_BA2 (out), K20 DDR_BA0 (out), K21 DDR_DTO1 (out), L2 PJ9 (io), L4 PJ7 (io), L5 PJ6 (io), L6 PJ1 (io), L22 DDR_DTO0 (out), N1 PI8 (io), N3 BOOT0 (in), N4 BOOT1 (in), P4 BOOT2 (in), R4 ANA0, R18 DDR_BA1 (in), T3 PI11 (io), T5 ANA1, W1 PI10 (io)
part D pins: A20 DDR_DQ20 (io), A21 DDR_DQ23 (io), AA14 USB_DM2, AA15 USB_DP1, AA20 DDR_DQ29 (io), AA21 DDR_DQ28 (io), AA22 DDR_DQM3 (out), AB14 USB_DP2, AB15 USB_DM1, AB20 DDR_DQ27 (io), AB21 DDR_DQ26 (io), B20 DDR_DQ19 (io), B21 DDR_DQ16 (io), B22 DDR_DQS2N (io), C21 DDR_DQS2P (io), C22 DDR_DQM2 (out), D20 DDR_DQ22 (io), D21 DDR_DQ17 (io), D22 DDR_DQ18 (io), E20 DDR_DQ3 (io), E21 DDR_DQ0 (io), E22 DDR_DQ21 (io), F18 DDR_A7 (out), F21 DDR_DQ1 (io), G18 DDR_A13 (out), G19 DDR_DQ7 (io), G20 DDR_DQM0 (out), G21 DDR_DQS0N (io), G22 DDR_DQS0P (io), H18 DDR_A9 (out), H19 DDR_A5 (out), H20 DDR_DQ5 (io), H21 DDR_DQ2 (io), H22 DDR_DQ6 (io), J18 DDR_A2 (out), J19 DDR_A3 (out), J21 DDR_DQ4 (io), K19 DDR_A0 (out), M18 DDR_A1 (out), M19 DDR_A15 (out), N18 DDR_A10 (out), N19 DDR_A12 (out), N22 DDR_DQ8 (io), P18 DDR_A14 (out), P19 DDR_A11 (out), P21 DDR_DQ10 (io), R20 DDR_DQ13 (io), R21 DDR_DQ9 (io), R22 DDR_DQS1N (io), T18 DDR_A4 (out), T20 DDR_DQ11 (io), T21 DDR_DQM1 (out), T22 DDR_DQS1P (io), U18 DDR_A8 (out), U19 DDR_A6 (out), U21 DDR_DQ14 (io), V20 DDR_DQ12 (io), V21 DDR_DQ15 (io), V22 DDR_DQ24 (io), W20 DDR_DQ25 (io), W21 DDR_DQ31 (io), W22 DDR_DQ30 (io), Y21 DDR_DQS3P (io), Y22 DDR_DQS3N (io)
part E pins: A16 DSI_CKN, AA12 BYPASS_REG1V8 (in), AA17 USB_RREF, AA19 DDR_ATO (out), AB19 DDR_VREF, B16 DSI_CKP, D16 JTDI (in), D17 JTCK-SWCLK (in), E15 NJTRST (in), E16 JTDO-TRACESWO (out), E17 JTMS-SWDIO (io), F19 DDR_RESETN (out), K22 DDR_ZQ, L18 DDR_CSN (out), L21 DDR_ODT (out), M20 DDR_RASN (out), M21 DDR_WEN (out), M22 DDR_CASN (out), N20 DDR_CLKP (out), N21 DDR_CLKN (out), R1 NRST_CORE (in), R2 NRST (io), R19 DDR_CKE (in), U1 PWR_LP (out), U2 PDR_ON_CORE (in), V1 PWR_ON (out), V2 PDR_ON (in), V15 OTG_VBUS
part F pins: A14 VDD_DSI (power), A18 VDD1V2_DSI_PHY (power), AB12 VDDA1V8_REG (power), AB13 VDD3V3_USBHS (power), AB16 VDD3V3_USBFS (power), AB17 VDDA1V1_REG (power), B14 VDDA1V8_DSI (power), B18 VDD1V2_DSI_REG (power), D18 VDD_PLL2 (power), E18 VDDQ_DDR (power), F17 VDDQ_DDR (power), G16 VDDQ_DDR (power), H9 VDDCORE (power), H11 VDDCORE (power), H13 VDDCORE (power), H15 VDDCORE (power), H17 VDDQ_DDR (power), J8 VDDCORE (power), J10 VDDCORE (power), J12 VDDCORE (power), J14 VDDCORE (power), J16 VDDQ_DDR (power), K9 VDDCORE (power), K11 VDDCORE (power), K13 VDDCORE (power), K15 VDDCORE (power), K17 VDDQ_DDR (power), L8 VDDCORE (power), L10 VDDCORE (power), L12 VDDCORE (power), L14 VDDCORE (power), L16 VDDQ_DDR (power), M4 VBAT (power), M6 VDD_PLL (power), M9 VDD (power), M11 VDDCORE (power), M13 VDDCORE (power), M15 VDDCORE (power), M17 VDDQ_DDR (power), N5 VDD_ANA (power), N6 VREF- (power), N8 VDD (power), N10 VDD (power), N12 VDDCORE (power), N14 VDDCORE (power), N16 VDDQ_DDR (power), P6 VREF+ (power), P9 VDD (power), P11 VDD (power), P13 VDDCORE (power), P15 VDDCORE (power), P17 VDDQ_DDR (power), R5 VDDA (power), R10 VDD (power), R12 VDD (power), R14 VDDCORE (power), R16 VDDQ_DDR (power), T13 VDD (power), T15 VDDCORE (power), T17 VDDQ_DDR (power), U9 VDD (power), U12 VDD (power), U14 VDD (power), U16 VDDQ_DDR (power), V17 VDDQ_DDR (power), W18 VDDQ_DDR (power), Y19 VDDQ_DDR (power)
part G pins: A1 VSS (power), A19 VSS (power), A22 VSS (power), AA4 VSS (power), AA13 VSS_USBHS (power), AA16 VSS_USBHS (power), AA18 VSS (power), AB1 VSS (power), AB18 VSS (power), AB22 VSS (power), B2 VSS (power), B19 VSS (power), C3 VSS (power), C8 VSS (power), C11 VSS (power), C14 VSS_DSI (power), C15 VSS_DSI (power), C16 VSS_DSI (power), C17 VSS_DSI (power), C18 VSS_DSI (power), C19 VSS (power), C20 VSS (power), D4 VSS (power), D19 VSS_PLL2 (power), E5 VSS (power), E19 VSS (power), F6 VSS (power), F7 VSS (power), F8 VSS (power), F16 VSS (power), F20 VSS (power), G4 VSS (power), G6 VSS (power), G8 VSS (power), G10 VSS (power), G12 VSS (power), G14 VSS (power), G17 VSS (power), H7 VSS (power), J9 VSS (power), J11 VSS (power), J13 VSS (power), J17 VSS (power), J20 VSS (power), K3 VSS (power), K7 VSS (power), K10 VSS (power), K12 VSS (power), K14 VSS (power), L9 VSS (power), L11 VSS (power), L13 VSS (power), L17 VSS (power), L19 VSS (power), L20 VSS (power), M5 VSS_PLL (power), M7 VSS (power), M10 VSS (power), M12 VSS (power), M14 VSS (power), N9 VSS (power), N11 VSS (power), N13 VSS (power), N17 VSS (power), P3 VSS (power), P5 VSS_ANA (power), P7 VSS (power), P10 VSS (power), P12 VSS (power), P14 VSS (power), P20 VSS (power), R6 VSSA (power), R8 VSS (power), R17 VSS (power), T6 VSSA (power), T7 VSS (power), T9 VSS (power), T11 VSS (power), T19 VSS (power), U6 VSSA (power), U7 VSS (power), U13 VSS (power), U15 VSS (power), U17 VSS (power), U20 VSS (power), V5 VSS (power), V16 VSS (power), V18 VSS (power), V19 VSS (power), W17 VSS (power), W19 VSS (power), Y3 VSS (power), Y7 VSS (power), Y10 VSS (power), Y13 VSS_USBHS (power), Y14 VSS_USBHS (power), Y15 VSS_USBHS (power), Y18 VSS (power), Y20 VSS (power)
part A text: 1 of 7
part B text: 2 of 7
part C text: 3 of 7
part D text: 4 of 7
part E text: 5 of 7
part F text: 6 of 7
part G text: 7 of 7

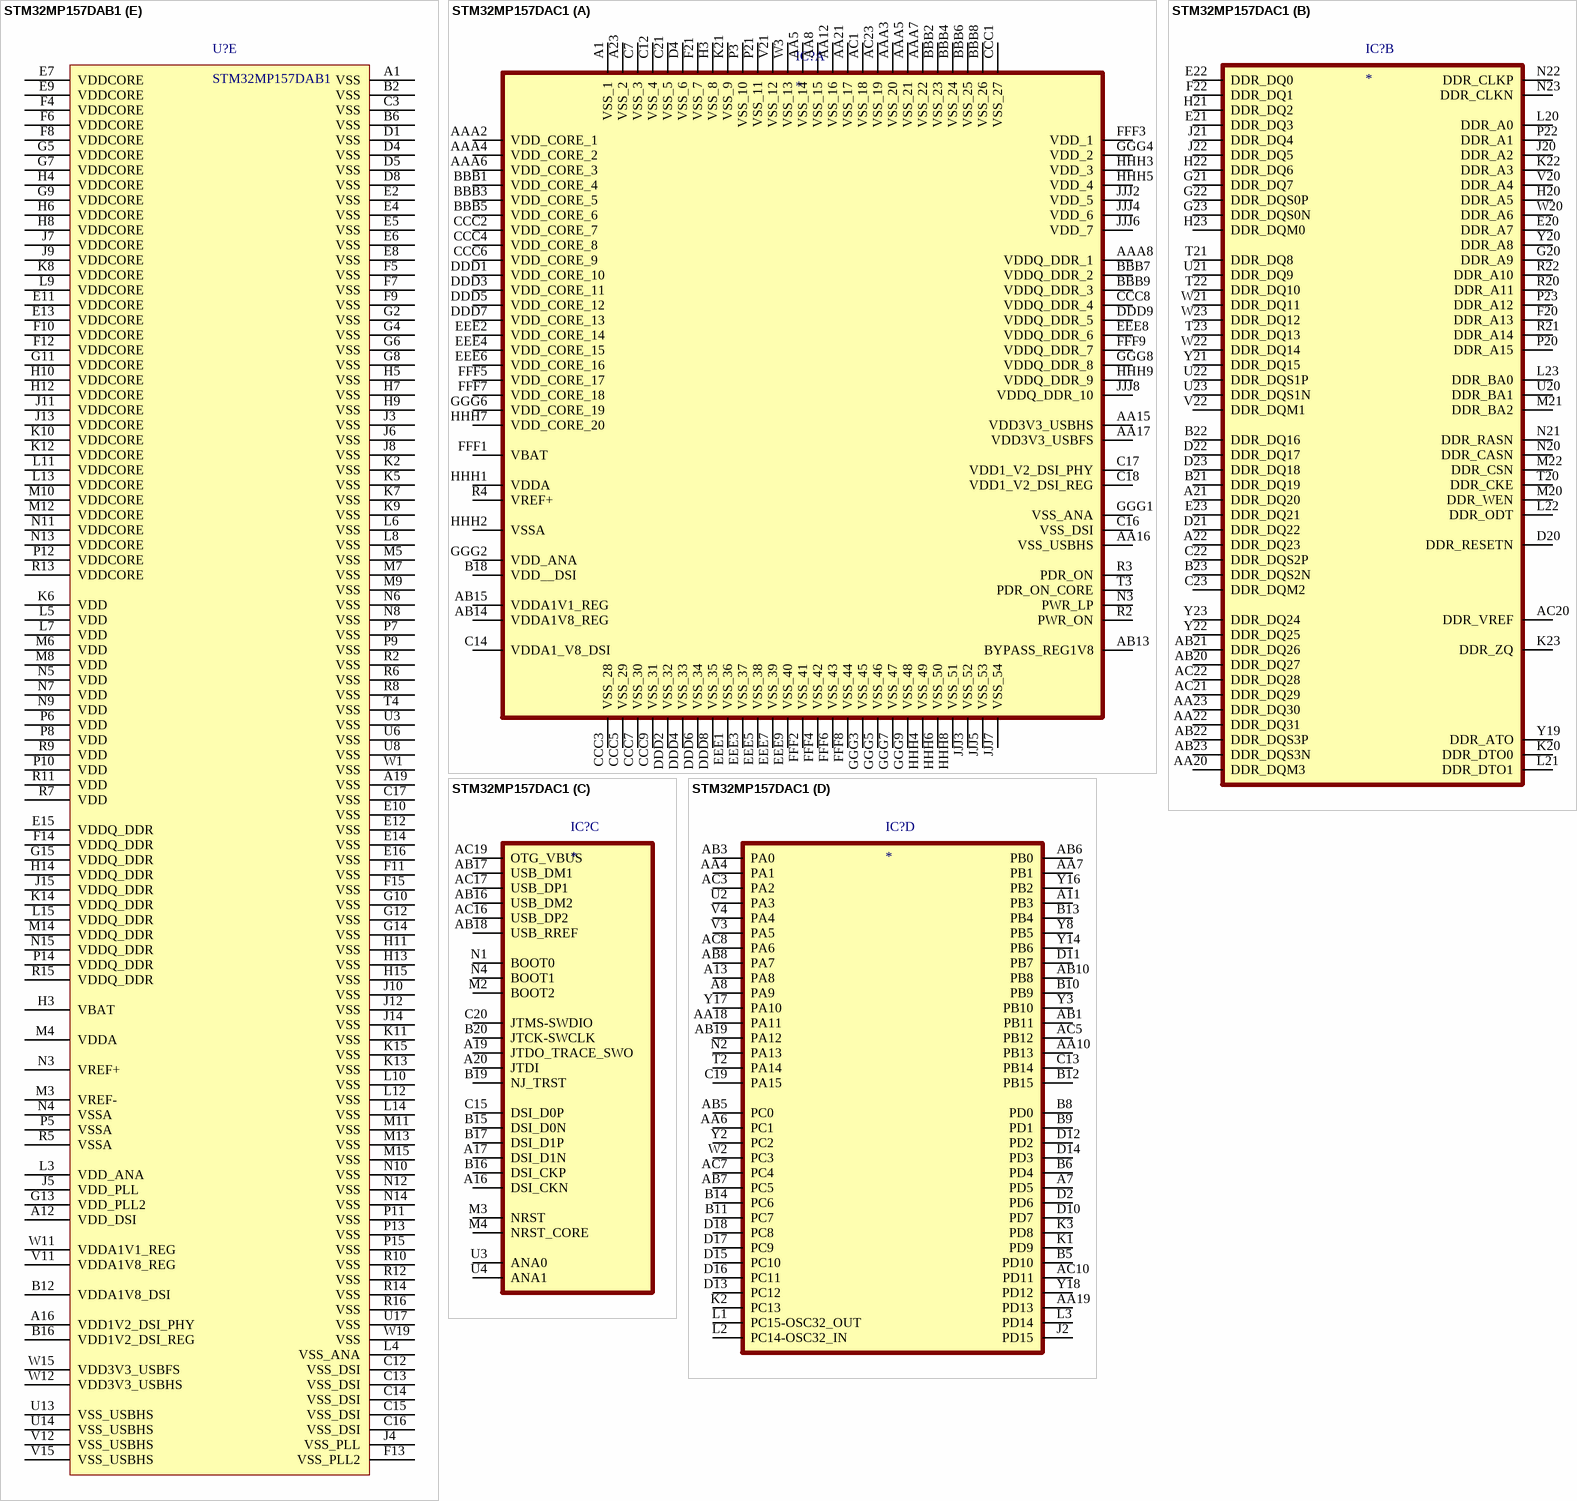
[diagram p12: symbols STM32MP157DAB1 to STM32MP157DAC1]

## STM32MP157DAB1
designator U?
MPU; Mfr_Name: STMicroelectronics; Copyright: Copyright (C) 2023 Ultra Librarian. All rights reserved.; Manufacturer_Part_Number: STM32MP157DAB1; RefDes: RefDes; Type: DEV
footprint LFBGA354
part A pins: A3 PD0 (io), A4 PD1 (io), A7 PB3 (io), A8 PB15 (io), A9 PC7 (io), A10 PC9 (io), A11 PC11 (io), B4 PD7 (io), B5 PB7 (io), B8 PA8 (io), B9 PB4 (io), B10 PD2 (io), C5 PD10 (io), C6 PD3 (io), C7 PA15 (io), C8 PA9 (io), C9 PB14 (io), C10 PC12 (io), C11 PC8 (io), D6 PD4 (io), D7 PD5 (io), D9 PB9 (io), D10 PC6 (io), D11 PC10 (io), E3 PD6 (io), F2 PD8 (io), F3 PD14 (io), G1 PD15 (io), G3 PD9 (io), H1 PC14-OSC32_IN (io), H2 PC15-OSC32_OUT (io), K3 PC13 (io), P2 PA13 (io), P3 PA3 (io), P4 PA5 (io), R1 PA14 (io), R3 PA0 (io), R4 PA4 (io), T2 PC2 (io), T3 PC3 (io), T5 PA6 (io), T6 PA7 (io), T7 PC0 (io), T8 PB5 (io), T9 PB13 (io), T12 PB6 (io), T13 PB2 (io), T16 PA10 (io), U4 PA1 (io), U11 PD12 (io), U12 PD13 (io), U16 PA12 (io), V1 PB11 (io), V2 PC1 (io), V3 PB1 (io), V4 PC5 (io), V5 PB12 (io), V8 PD11 (io), V17 PA11 (io), W2 PA2 (io), W3 PB0 (io), W4 PC4 (io), W5 PB10 (io), W6 PB8 (io)
part B pins: A2 PG15 (io), A5 PE3 (io), A6 PG6 (io), B1 PE1 (io), B3 PE6 (io), B7 PE5 (io), B11 PE4 (io), C1 PE11 (io), C2 PE13 (io), C4 PE0 (io), D2 PE12 (io), D3 PE14 (io), E1 PE15 (io), F1 PG12 (io), M1 PH0-OSC_IN (io), M2 PH1-OSC_OUT (io), T1 PE2 (io), T10 PE7 (io), T11 PE8 (io), T14 PG9 (io), U1 PG14 (io), U2 PG13 (io), U5 PF11 (io), U7 PG8 (io), U9 PF10 (io), U10 PF8 (io), V6 PG11 (io), V7 PG10 (io), V9 PF6 (io), V10 PE10 (io), W7 PE9 (io), W8 PF7 (io), W9 PF9 (io), W10 PG7 (io)
part C pins: A17 DDR_DQ0 (io), A18 DDR_DQ1 (io), B17 DDR_DQ3 (io), B18 DDR_DQ7 (io), B19 DDR_DQS0N (io), C18 DDR_DQM0 (out), C19 DDR_DQS0P (io), D17 DDR_DQ5 (io), D18 DDR_DQ2 (io), D19 DDR_DQ6 (io), E17 DDR_A7 (out), E18 DDR_DQ4 (io), F17 DDR_A13 (out), F18 DDR_ZQ, F19 DDR_A3 (out), G16 DDR_RESETN (out), G17 DDR_A9 (out), G18 DDR_A2 (out), G19 DDR_BA0 (out), H17 DDR_A5 (out), H18 DDR_A0 (out), H19 DDR_ODT (out), J16 DDR_BA2 (out), J17 DDR_WEN (out), J18 DDR_CSN (out), J19 DDR_DTO1 (out), K17 DDR_CASN (out), K18 DDR_DTO0 (out), K19 DDR_CLKN (out), L16 DDR_A15 (out), L17 DDR_A12 (out), L18 DDR_RASN (io), L19 DDR_CLKP (io), M17 DDR_A1 (out), M18 DDR_A11 (out), M19 DDR_A10 (out), N16 DDR_A6 (out), N17 DDR_BA1 (out), N18 DDR_A14 (out), N19 DDR_ATO (out), P17 DDR_A4 (out), P18 DDR_DQ8 (io), P19 DDR_CKE (out), R17 DDR_A8 (out), R18 DDR_DQ10 (io), T17 DDR_DQ9 (io), T18 DDR_DQ13 (io), T19 DDR_DQS1N (io), U18 DDR_DQM1 (out), U19 DDR_DQS1P (io), V18 DDR_DQ14 (io), V19 DDR_DQ11 (io), W16 DDR_VREF (power), W17 DDR_DQ15 (io), W18 DDR_DQ12 (io)
part D pins: A13 DSI_D0N, A14 DSI_CKN, A15 DSI_D1N, B13 DSI_D0P, B14 DSI_CKP, B15 DSI_D1P, D12 NJTRST, D13 JTDI, D14 JTDO-TRACESWO, D15 JTMS-SWDIO, D16 JTCK-SWCLK, J1 NRST, J2 NRST_CORE, K1 BOOT0, K4 BOOT1, L1 PWR_ON, L2 BOOT2, N1 PDR_ON_CORE, N2 PDR_ON, P1 PWR_LP, T15 BYPASS_REG1V8, U15 OTG_VBUS, V13 USB_DM2, V14 USB_DP1, V16 USB_RREF, W13 USB_DP2, W14 USB_DM1
part E pins: A1 VSS (power), A12 VDD_DSI (power), A16 VDD1V2_DSI_PHY (power), A19 VSS (power), B2 VSS (power), B6 VSS (power), B12 VDDA1V8_DSI (power), B16 VDD1V2_DSI_REG (power), C3 VSS (power), C12 VSS_DSI (power), C13 VSS_DSI (power), C14 VSS_DSI (power), C15 VSS_DSI (power), C16 VSS_DSI (power), C17 VSS (power), D1 VSS (power), D4 VSS (power), D5 VSS (power), D8 VSS (power), E2 VSS (power), E4 VSS (power), E5 VSS (power), E6 VSS (power), E7 VDDCORE (power), E8 VSS (power), E9 VDDCORE (power), E10 VSS (power), E11 VDDCORE (power), E12 VSS (power), E13 VDDCORE (power), E14 VSS (power), E15 VDDQ_DDR (power), E16 VSS (power), F4 VDDCORE (power), F5 VSS (power), F6 VDDCORE (power), F7 VSS (power), F8 VDDCORE (power), F9 VSS (power), F10 VDDCORE (power), F11 VSS (power), F12 VDDCORE (power), F13 VSS_PLL2 (power), F14 VDDQ_DDR (power), F15 VSS (power), G2 VSS (power), G4 VSS (power), G5 VDDCORE (power), G6 VSS (power), G7 VDDCORE (power), G8 VSS (power), G9 VDDCORE (power), G10 VSS (power), G11 VDDCORE (power), G12 VSS (power), G13 VDD_PLL2 (power), G14 VSS (power), G15 VDDQ_DDR (power), H3 VBAT (power), H4 VDDCORE (power), H5 VSS (power), H6 VDDCORE (power), H7 VSS (power), H8 VDDCORE (power), H9 VSS (power), H10 VDDCORE (power), H11 VSS (power), H12 VDDCORE (power), H13 VSS (power), H14 VDDQ_DDR (power), H15 VSS (power), J3 VSS (power), J4 VSS_PLL (power), J5 VDD_PLL (power), J6 VSS (power), J7 VDDCORE (power), J8 VSS (power), J9 VDDCORE (power), J10 VSS (power), J11 VDDCORE (power), J12 VSS (power), J13 VDDCORE (power), J14 VSS (power), J15 VDDQ_DDR (power), K2 VSS (power), K5 VSS (power), K6 VDD (power), K7 VSS (power), K8 VDDCORE (power), K9 VSS (power), K10 VDDCORE (power), K11 VSS (power), K12 VDDCORE (power), K13 VSS (power), K14 VDDQ_DDR (power), K15 VSS (power), L3 VDD_ANA (power), L4 VSS_ANA (power), L5 VDD (power), L6 VSS (power), L7 VDD (power), L8 VSS (power), L9 VDDCORE (power), L10 VSS (power), L11 VDDCORE (power), L12 VSS (power), L13 VDDCORE (power), L14 VSS (power), L15 VDDQ_DDR (power), M3 VREF- (power), M4 VDDA (power), M5 VSS (power), M6 VDD (power), M7 VSS (power), M8 VDD (power), M9 VSS (power), M10 VDDCORE (power), M11 VSS (power), M12 VDDCORE (power), M13 VSS (power), M14 VDDQ_DDR (power), M15 VSS (power), N3 VREF+ (power), N4 VSSA (power), N5 VDD (power), N6 VSS (power), N7 VDD (power), N8 VSS (power), N9 VDD (power), N10 VSS (power), N11 VDDCORE (power), N12 VSS (power), N13 VDDCORE (power), N14 VSS (power), N15 VDDQ_DDR (power), P5 VSSA (power), P6 VDD (power), P7 VSS (power), P8 VDD (power), P9 VSS (power), P10 VDD (power), P11 VSS (power), P12 VDDCORE (power), P13 VSS (power), P14 VDDQ_DDR (power), P15 VSS (power), R2 VSS (power), R5 VSSA (power), R6 VSS (power), R7 VDD (power), R8 VSS (power), R9 VDD (power), R10 VSS (power), R11 VDD (power), R12 VSS (power), R13 VDDCORE (power), R14 VSS (power), R15 VDDQ_DDR (power), R16 VSS (power), T4 VSS (power), U3 VSS (power), U6 VSS (power), U8 VSS (power), U13 VSS_USBHS (power), U14 VSS_USBHS (power), U17 VSS (power), V11 VDDA1V8_REG (power), V12 VSS_USBHS (power), V15 VSS_USBHS (power), W1 VSS (power), W11 VDDA1V1_REG (power), W12 VDD3V3_USBHS (power), W15 VDD3V3_USBFS (power), W19 VSS (power)

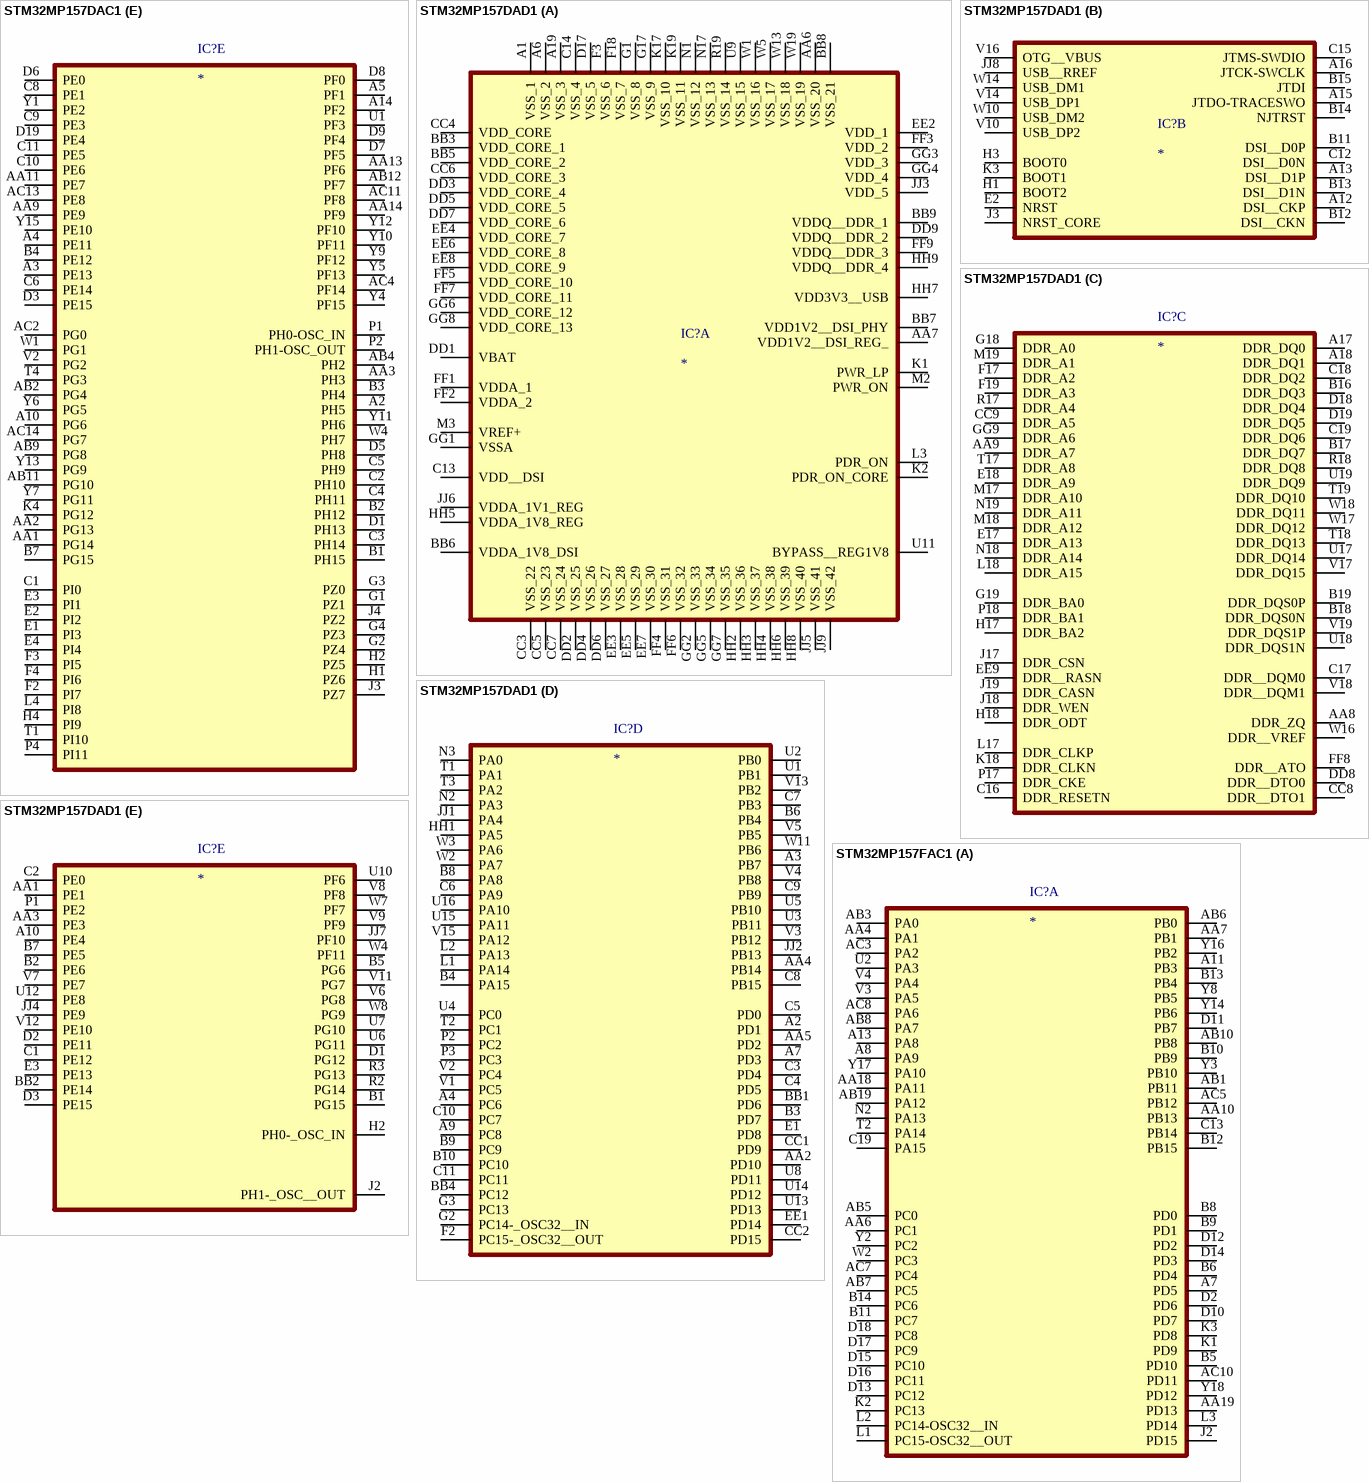
[diagram p13: symbols STM32MP157DAC1 to STM32MP157FAC1]

## STM32MP157DAC1
designator IC?
MPU; Manufacturer_Name: STMicroelectronics; Manufacturer_Part_Number: STM32MP157DAC1; Datasheet Link: https://www.st.com/resource/en/datasheet/stm32mp157a.pdf; Height: 1.2mm; Mouser Part Number: 511-STM32MP157DAC1; Mouser Price/Stock: https://www.mouser.co.uk/ProductDetail/STMicroelectronics/STM32MP157DAC1?qs=xZ%2FP%252Ba9zWqZUFKwuM4%2F0sA%3D%3D; Arrow Part Number: STM32MP157DAC1; Arrow Price/Stock: https://www.arrow.com/en/products/stm32mp157dac1/stmicroelectronics
footprint TFBGA361
part A pins: A1 VSS_1, A23 VSS_2, AA5 VSS_14, AA8 VSS_15, AA12 VSS_16, AA15 VDD3V3_USBHS, AA16 VSS_USBHS, AA17 VDD3V3_USBFS, AA21 VSS_17, AAA2 VDD_CORE_1, AAA3 VSS_20, AAA4 VDD_CORE_2, AAA5 VSS_21, AAA6 VDD_CORE_3, AAA7 VSS_22, AAA8 VDDQ_DDR_1, AB13 BYPASS_REG1V8, AB14 VDDA1V8_REG, AB15 VDDA1V1_REG, AC1 VSS_18, AC23 VSS_19, B18 VDD__DSI, BBB1 VDD_CORE_4, BBB2 VSS_23, BBB3 VDD_CORE_5, BBB4 VSS_24, BBB5 VDD_CORE_6, BBB6 VSS_25, BBB7 VDDQ_DDR_2, BBB8 VSS_26, BBB9 VDDQ_DDR_3, C7 VSS_3, C12 VSS_4, C14 VDDA1_V8_DSI, C16 VSS_DSI, C17 VDD1_V2_DSI_PHY, C18 VDD1_V2_DSI_REG, C21 VSS_5, CCC1 VSS_27, CCC2 VDD_CORE_7, CCC3 VSS_28, CCC4 VDD_CORE_8, CCC5 VSS_29, CCC6 VDD_CORE_9, CCC7 VSS_30, CCC8 VDDQ_DDR_4, CCC9 VSS_31, D4 VSS_6, DDD1 VDD_CORE_10, DDD2 VSS_32, DDD3 VDD_CORE_11, DDD4 VSS_33, DDD5 VDD_CORE_12, DDD6 VSS_34, DDD7 VDD_CORE_13, DDD8 VSS_35, DDD9 VDDQ_DDR_5, EEE1 VSS_36, EEE2 VDD_CORE_14, EEE3 VSS_37, EEE4 VDD_CORE_15, EEE5 VSS_38, EEE6 VDD_CORE_16, EEE7 VSS_39, EEE8 VDDQ_DDR_6, EEE9 VSS_40, F21 VSS_7, FFF1 VBAT, FFF2 VSS_41, FFF3 VDD_1, FFF4 VSS_42, FFF5 VDD_CORE_17, FFF6 VSS_43, FFF7 VDD_CORE_18, FFF8 VSS_44, FFF9 VDDQ_DDR_7, GGG1 VSS_ANA, GGG2 VDD_ANA, GGG3 VSS_45, GGG4 VDD_2, GGG5 VSS_46, GGG6 VDD_CORE_19, GGG7 VSS_47, GGG8 VDDQ_DDR_8, GGG9 VSS_48, H3 VSS_8, HHH1 VDDA, HHH2 VSSA, HHH3 VDD_3, HHH4 VSS_49, HHH5 VDD_4, HHH6 VSS_50, HHH7 VDD_CORE_20, HHH8 VSS_51, HHH9 VDDQ_DDR_9, JJJ2 VDD_5, JJJ3 VSS_52, JJJ4 VDD_6, JJJ5 VSS_53, JJJ6 VDD_7, JJJ7 VSS_54, JJJ8 VDDQ_DDR_10, K21 VSS_9, N3 PWR_LP, P3 VSS_10, P21 VSS_11, R2 PWR_ON, R3 PDR_ON, R4 VREF+, T3 PDR_ON_CORE, V21 VSS_12, W3 VSS_13
part B pins: A21 DDR_DQ20, A22 DDR_DQ23, AA20 DDR_DQM3, AA22 DDR_DQ31, AA23 DDR_DQ30, AB20 DDR_DQ27, AB21 DDR_DQ26, AB22 DDR_DQS3P, AB23 DDR_DQS3N, AC20 DDR_VREF, AC21 DDR_DQ29, AC22 DDR_DQ28, B21 DDR_DQ19, B22 DDR_DQ16, B23 DDR_DQS2N, C22 DDR_DQS2P, C23 DDR_DQM2, D20 DDR_RESETN, D21 DDR_DQ22, D22 DDR_DQ17, D23 DDR_DQ18, E20 DDR_A7, E21 DDR_DQ3, E22 DDR_DQ0, E23 DDR_DQ21, F20 DDR_A13, F22 DDR_DQ1, G20 DDR_A9, G21 DDR_DQ7, G22 DDR_DQS0P, G23 DDR_DQS0N, H20 DDR_A5, H21 DDR_DQ2, H22 DDR_DQ6, H23 DDR_DQM0, J20 DDR_A2, J21 DDR_DQ4, J22 DDR_DQ5, K20 DDR_DTO0, K22 DDR_A3, K23 DDR_ZQ, L20 DDR_A0, L21 DDR_DTO1, L22 DDR_ODT, L23 DDR_BA0, M20 DDR_WEN, M21 DDR_BA2, M22 DDR_CSN, N20 DDR_CASN, N21 DDR_RASN, N22 DDR_CLKP, N23 DDR_CLKN, P20 DDR_A15, P22 DDR_A1, P23 DDR_A12, R20 DDR_A11, R21 DDR_A14, R22 DDR_A10, T20 DDR_CKE, T21 DDR_DQ8, T22 DDR_DQ10, T23 DDR_DQ13, U20 DDR_BA1, U21 DDR_DQ9, U22 DDR_DQS1P, U23 DDR_DQS1N, V20 DDR_A4, V22 DDR_DQM1, W20 DDR_A6, W21 DDR_DQ11, W22 DDR_DQ14, W23 DDR_DQ12, Y19 DDR_ATO, Y20 DDR_A8, Y21 DDR_DQ15, Y22 DDR_DQ25, Y23 DDR_DQ24
part C pins: A16 DSI_CKN, A17 DSI_D1N, A19 JTDO_TRACE_SWO, A20 JTDI, AB16 USB_DM2, AB17 USB_DM1, AB18 USB_RREF, AC16 USB_DP2, AC17 USB_DP1, AC19 OTG_VBUS, B15 DSI_D0N, B16 DSI_CKP, B17 DSI_D1P, B19 NJ_TRST, B20 JTCK-SWCLK, C15 DSI_D0P, C20 JTMS-SWDIO, M2 BOOT2, M3 NRST, M4 NRST_CORE, N1 BOOT0, N4 BOOT1, U3 ANA0, U4 ANA1
part D pins: A7 PD5, A8 PA9, A11 PB3, A13 PA8, AA4 PA1, AA6 PC1, AA7 PB1, AA10 PB13, AA18 PA11, AA19 PD13, AB1 PB11, AB3 PA0, AB5 PC0, AB6 PB0, AB7 PC5, AB8 PA7, AB10 PB8, AB19 PA12, AC3 PA2, AC5 PB12, AC7 PC4, AC8 PA6, AC10 PD11, B5 PD10, B6 PD4, B8 PD0, B9 PD1, B10 PB9, B11 PC7, B12 PB15, B13 PB4, B14 PC6, C13 PB14, C19 PA15, D2 PD6, D10 PD7, D11 PB7, D12 PD2, D13 PC12, D14 PD3, D15 PC10, D16 PC11, D17 PC9, D18 PC8, J2 PD15, K1 PD9, K2 PC13, K3 PD8, L1 PC15-OSC32_OUT, L2 PC14-OSC32_IN, L3 PD14, N2 PA13, T2 PA14, U2 PA3, V3 PA5, V4 PA4, W2 PC3, Y2 PC2, Y3 PB10, Y8 PB5, Y14 PB6, Y16 PB2, Y17 PA10, Y18 PD12
part E pins: A2 PH5, A3 PE13, A4 PE11, A5 PF1, A10 PG6, A14 PF2, AA1 PG14, AA2 PG13, AA3 PH3, AA9 PE9, AA11 PE7, AA13 PF6, AA14 PF9, AB2 PG4, AB4 PH2, AB9 PG8, AB11 PG10, AB12 PF7, AC2 PG0, AC4 PF14, AC11 PF8, AC13 PE8, AC14 PG7, B1 PH15, B2 PH12, B3 PH4, B4 PE12, B7 PG15, C1 PI0, C2 PH10, C3 PH14, C4 PH11, C5 PH9, C6 PE14, C8 PE1, C9 PE3, C10 PE6, C11 PE5, D1 PH13, D3 PE15, D5 PH8, D6 PE0, D7 PF5, D8 PF0, D9 PF4, D19 PE4, E1 PI3, E2 PI2, E3 PI1, E4 PI4, F2 PI7, F3 PI5, F4 PI6, G1 PZ1, G2 PZ4, G3 PZ0, G4 PZ3, H1 PZ6, H2 PZ5, H4 PI9, J3 PZ7, J4 PZ2, K4 PG12, L4 PI8, P1 PH0-OSC_IN, P2 PH1-OSC_OUT, P4 PI11, T1 PI10, T4 PG3, U1 PF3, V2 PG2, W1 PG1, W4 PH7, Y1 PE2, Y4 PF15, Y5 PF13, Y6 PG5, Y7 PG11, Y9 PF12, Y10 PF11, Y11 PH6, Y12 PF10, Y13 PG9, Y15 PE10

## STM32MP157DAD1
designator IC?
MPU; Manufacturer_Name: STMicroelectronics; Manufacturer_Part_Number: STM32MP157DAD1; Datasheet Link: https://www.st.com/resource/en/datasheet/stm32mp157a.pdf; Height: 1.2mm; Mouser Part Number: 511-STM32MP157DAD1; Mouser Price/Stock: https://www.mouser.co.uk/ProductDetail/STMicroelectronics/STM32MP157DAD1?qs=xZ%2FP%252Ba9zWqYrz9FQnn%2FgbA%3D%3D
footprint TFBGA257
part A pins: A1 VSS_1, A6 VSS_2, A19 VSS_3, AA6 VSS_20, AA7 VDD1V2__DSI_REG_, BB3 VDD_CORE_1, BB5 VDD_CORE_2, BB6 VDDA_1V8_DSI, BB7 VDD1V2__DSI_PHY, BB8 VSS_21, BB9 VDDQ__DDR_1, C13 VDD__DSI, C14 VSS_4, CC3 VSS_22, CC4 VDD_CORE, CC5 VSS_23, CC6 VDD_CORE_3, CC7 VSS_24, D17 VSS_5, DD1 VBAT, DD2 VSS_25, DD3 VDD_CORE_4, DD4 VSS_26, DD5 VDD_CORE_5, DD6 VSS_27, DD7 VDD_CORE_6, DD9 VDDQ__DDR_2, EE2 VDD_1, EE3 VSS_28, EE4 VDD_CORE_7, EE5 VSS_29, EE6 VDD_CORE_8, EE7 VSS_30, EE8 VDD_CORE_9, F3 VSS_6, F18 VSS_7, FF1 VDDA_1, FF2 VDDA_2, FF3 VDD_2, FF4 VSS_31, FF5 VDD_CORE_10, FF6 VSS_32, FF7 VDD_CORE_11, FF9 VDDQ__DDR_3, G1 VSS_8, G17 VSS_9, GG1 VSSA, GG2 VSS_33, GG3 VDD_3, GG4 VDD_4, GG5 VSS_34, GG6 VDD_CORE_12, GG7 VSS_35, GG8 VDD_CORE_13, HH2 VSS_36, HH3 VSS_37, HH4 VSS_38, HH5 VDDA_1V8_REG, HH6 VSS_39, HH7 VDD3V3__USB, HH8 VSS_40, HH9 VDDQ__DDR_4, JJ3 VDD_5, JJ5 VSS_41, JJ6 VDDA_1V1_REG, JJ9 VSS_42, K1 PWR_LP, K2 PDR_ON_CORE, K17 VSS_10, K19 VSS_11, L3 PDR_ON, M2 PWR_ON, M3 VREF+, N1 VSS_12, N17 VSS_13, R19 VSS_14, U9 VSS_15, U11 BYPASS__REG1V8, W1 VSS_16, W5 VSS_17, W13 VSS_18, W19 VSS_19
part B pins: A12 DSI__CKP, A13 DSI__D1P, A15 JTDO-TRACESWO, A16 JTCK-SWCLK, B11 DSI__D0P, B12 DSI__CKN, B13 DSI__D1N, B14 NJTRST, B15 JTDI, C12 DSI__D0N, C15 JTMS-SWDIO, E2 NRST, H1 BOOT2, H3 BOOT0, J3 NRST_CORE, JJ8 USB__RREF, K3 BOOT1, V10 USB_DP2, V14 USB_DP1, V16 OTG__VBUS, W10 USB_DM2, W14 USB_DM1
part C pins: A17 DDR_DQ0, A18 DDR_DQ1, AA8 DDR_ZQ, AA9 DDR_A7, B16 DDR_DQ3, B17 DDR_DQ7, B18 DDR_DQS0N, B19 DDR_DQS0P, C16 DDR_RESETN, C17 DDR__DQM0, C18 DDR_DQ2, C19 DDR_DQ6, CC8 DDR__DTO1, CC9 DDR_A5, D18 DDR_DQ4, D19 DDR_DQ5, DD8 DDR__DTO0, E17 DDR_A13, E18 DDR_A9, EE9 DDR__RASN, F17 DDR_A2, F19 DDR_A3, FF8 DDR__ATO, G18 DDR_A0, G19 DDR_BA0, GG9 DDR_A6, H17 DDR_BA2, H18 DDR_ODT, J17 DDR_CSN, J18 DDR_WEN, J19 DDR_CASN, K18 DDR_CLKN, L17 DDR_CLKP, L18 DDR_A15, M17 DDR_A10, M18 DDR_A12, M19 DDR_A1, N18 DDR_A14, N19 DDR_A11, P17 DDR_CKE, P18 DDR_BA1, R17 DDR_A4, R18 DDR_DQ8, T17 DDR_A8, T18 DDR_DQ13, T19 DDR_DQ10, U17 DDR_DQ14, U18 DDR_DQS1N, U19 DDR_DQ9, V17 DDR_DQ15, V18 DDR__DQM1, V19 DDR_DQS1P, W16 DDR__VREF, W17 DDR_DQ12, W18 DDR_DQ11
part D pins: A2 PD1, A3 PB7, A4 PC6, A7 PD3, A9 PC8, AA2 PD10, AA4 PB14, AA5 PD2, B3 PD7, B4 PA15, B6 PB4, B8 PA8, B9 PC9, B10 PC10, BB1 PD6, BB4 PC12, C3 PD4, C4 PD5, C5 PD0, C6 PA9, C7 PB3, C8 PB15, C9 PB9, C10 PC7, C11 PC11, CC1 PD9, CC2 PD15, E1 PD8, EE1 PD14, F2 PC15-_OSC32__OUT, G2 PC14-_OSC32__IN, G3 PC13, HH1 PA5, JJ1 PA4, JJ2 PB13, L1 PA14, L2 PA13, N2 PA3, N3 PA0, P2 PC2, P3 PC3, T1 PA1, T2 PC1, T3 PA2, U1 PB1, U2 PB0, U3 PB11, U4 PC0, U5 PB10, U8 PD11, U13 PD13, U14 PD12, U15 PA11, U16 PA10, V1 PC5, V2 PC4, V3 PB12, V4 PB8, V5 PB5, V13 PB2, V15 PA12, W2 PA7, W3 PA6, W11 PB6
part E pins: A10 PE4, AA1 PE1, AA3 PE3, B1 PG15, B2 PE6, B5 PG6, B7 PE5, BB2 PE14, C1 PE12, C2 PE0, D1 PG12, D2 PE11, D3 PE15, E3 PE13, H2 PH0-_OSC_IN, J2 PH1-_OSC__OUT, JJ4 PE9, JJ7 PF10, P1 PE2, R2 PG14, R3 PG13, U6 PG11, U7 PG10, U10 PF6, U12 PE8, V6 PG8, V7 PE7, V8 PF8, V9 PF9, V11 PG7, V12 PE10, W4 PF11, W7 PF7, W8 PG9

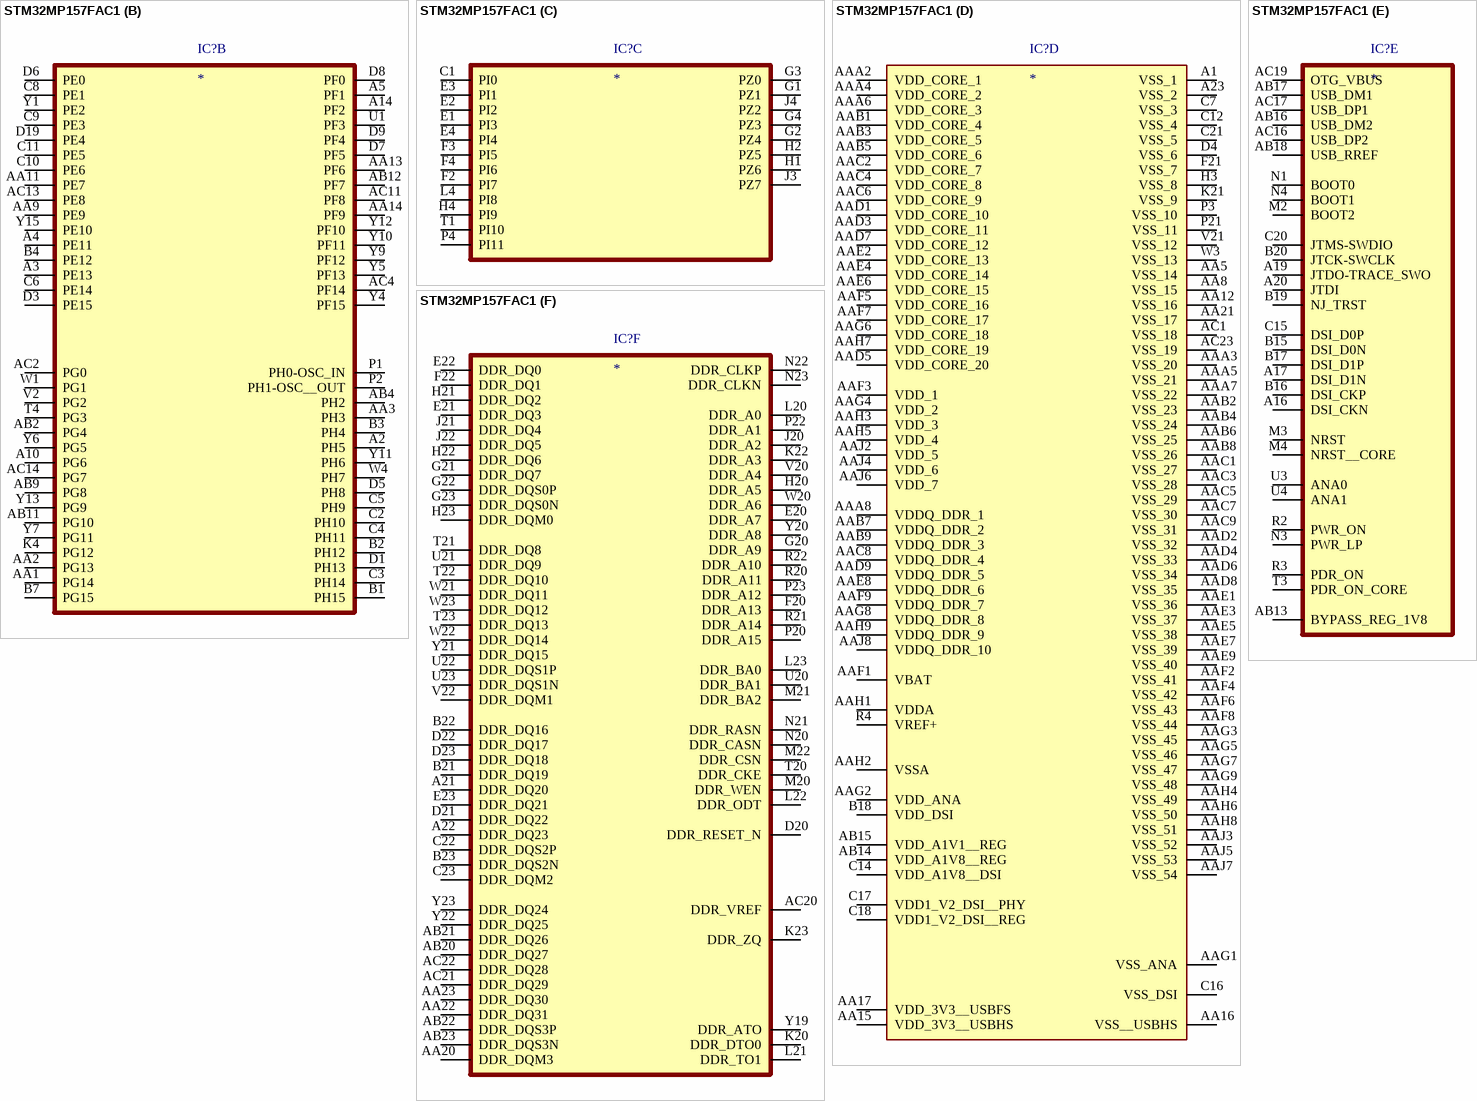
[diagram p14: symbol STM32MP157FAC1]

## STM32MP157FAC1
designator IC?
MPU; Manufacturer_Name: STMicroelectronics; Manufacturer_Part_Number: STM32MP157FAC1; Datasheet Link: https://www.st.com/resource/en/datasheet/stm32mp157f.pdf; Height: 1.2mm; Mouser Part Number: 511-STM32MP157FAC1; Mouser Price/Stock: https://www.mouser.co.uk/ProductDetail/STMicroelectronics/STM32MP157FAC1?qs=xZ%2FP%252Ba9zWqZ%252BgCLlY6UfwQ%3D%3D; Arrow Part Number: STM32MP157FAC1; Arrow Price/Stock: https://www.arrow.com/en/products/stm32mp157fac1/stmicroelectronics?region=nac
footprint TFBGA361
part A pins: A7 PD5, A8 PA9, A11 PB3, A13 PA8, AA4 PA1, AA6 PC1, AA7 PB1, AA10 PB13, AA18 PA11, AA19 PD13, AB1 PB11, AB3 PA0, AB5 PC0, AB6 PB0, AB7 PC5, AB8 PA7, AB10 PB8, AB19 PA12, AC3 PA2, AC5 PB12, AC7 PC4, AC8 PA6, AC10 PD11, B5 PD10, B6 PD4, B8 PD0, B9 PD1, B10 PB9, B11 PC7, B12 PB15, B13 PB4, B14 PC6, C13 PB14, C19 PA15, D2 PD6, D10 PD7, D11 PB7, D12 PD2, D13 PC12, D14 PD3, D15 PC10, D16 PC11, D17 PC9, D18 PC8, J2 PD15, K1 PD9, K2 PC13, K3 PD8, L1 PC15-OSC32__OUT, L2 PC14-OSC32__IN, L3 PD14, N2 PA13, T2 PA14, U2 PA3, V3 PA5, V4 PA4, W2 PC3, Y2 PC2, Y3 PB10, Y8 PB5, Y14 PB6, Y16 PB2, Y17 PA10, Y18 PD12
part B pins: A2 PH5, A3 PE13, A4 PE11, A5 PF1, A10 PG6, A14 PF2, AA1 PG14, AA2 PG13, AA3 PH3, AA9 PE9, AA11 PE7, AA13 PF6, AA14 PF9, AB2 PG4, AB4 PH2, AB9 PG8, AB11 PG10, AB12 PF7, AC2 PG0, AC4 PF14, AC11 PF8, AC13 PE8, AC14 PG7, B1 PH15, B2 PH12, B3 PH4, B4 PE12, B7 PG15, C2 PH10, C3 PH14, C4 PH11, C5 PH9, C6 PE14, C8 PE1, C9 PE3, C10 PE6, C11 PE5, D1 PH13, D3 PE15, D5 PH8, D6 PE0, D7 PF5, D8 PF0, D9 PF4, D19 PE4, K4 PG12, P1 PH0-OSC_IN, P2 PH1-OSC__OUT, T4 PG3, U1 PF3, V2 PG2, W1 PG1, W4 PH7, Y1 PE2, Y4 PF15, Y5 PF13, Y6 PG5, Y7 PG11, Y9 PF12, Y10 PF11, Y11 PH6, Y12 PF10, Y13 PG9, Y15 PE10
part C pins: C1 PI0, E1 PI3, E2 PI2, E3 PI1, E4 PI4, F2 PI7, F3 PI5, F4 PI6, G1 PZ1, G2 PZ4, G3 PZ0, G4 PZ3, H1 PZ6, H2 PZ5, H4 PI9, J3 PZ7, J4 PZ2, L4 PI8, P4 PI11, T1 PI10
part D pins: A1 VSS_1, A23 VSS_2, AA5 VSS_14, AA8 VSS_15, AA12 VSS_16, AA15 VDD_3V3__USBHS, AA16 VSS__USBHS, AA17 VDD_3V3__USBFS, AA21 VSS_17, AAA2 VDD_CORE_1, AAA3 VSS_20, AAA4 VDD_CORE_2, AAA5 VSS_21, AAA6 VDD_CORE_3, AAA7 VSS_22, AAA8 VDDQ_DDR_1, AAB1 VDD_CORE_4, AAB2 VSS_23, AAB3 VDD_CORE_5, AAB4 VSS_24, AAB5 VDD_CORE_6, AAB6 VSS_25, AAB7 VDDQ_DDR_2, AAB8 VSS_26, AAB9 VDDQ_DDR_3, AAC1 VSS_27, AAC2 VDD_CORE_7, AAC3 VSS_28, AAC4 VDD_CORE_8, AAC5 VSS_29, AAC6 VDD_CORE_9, AAC7 VSS_30, AAC8 VDDQ_DDR_4, AAC9 VSS_31, AAD1 VDD_CORE_10, AAD2 VSS_32, AAD3 VDD_CORE_11, AAD4 VSS_33, AAD5 VDD_CORE_20, AAD6 VSS_34, AAD7 VDD_CORE_12, AAD8 VSS_35, AAD9 VDDQ_DDR_5, AAE1 VSS_36, AAE2 VDD_CORE_13, AAE3 VSS_37, AAE4 VDD_CORE_14, AAE5 VSS_38, AAE6 VDD_CORE_15, AAE7 VSS_39, AAE8 VDDQ_DDR_6, AAE9 VSS_40, AAF1 VBAT, AAF2 VSS_41, AAF3 VDD_1, AAF4 VSS_42, AAF5 VDD_CORE_16, AAF6 VSS_43, AAF7 VDD_CORE_17, AAF8 VSS_44, AAF9 VDDQ_DDR_7, AAG1 VSS_ANA, AAG2 VDD_ANA, AAG3 VSS_45, AAG4 VDD_2, AAG5 VSS_46, AAG6 VDD_CORE_18, AAG7 VSS_47, AAG8 VDDQ_DDR_8, AAG9 VSS_48, AAH1 VDDA, AAH2 VSSA, AAH3 VDD_3, AAH4 VSS_49, AAH5 VDD_4, AAH6 VSS_50, AAH7 VDD_CORE_19, AAH8 VSS_51, AAH9 VDDQ_DDR_9, AAJ2 VDD_5, AAJ3 VSS_52, AAJ4 VDD_6, AAJ5 VSS_53, AAJ6 VDD_7, AAJ7 VSS_54, AAJ8 VDDQ_DDR_10, AB14 VDD_A1V8__REG, AB15 VDD_A1V1__REG, AC1 VSS_18, AC23 VSS_19, B18 VDD_DSI, C7 VSS_3, C12 VSS_4, C14 VDD_A1V8__DSI, C16 VSS_DSI, C17 VDD1_V2_DSI__PHY, C18 VDD1_V2_DSI__REG, C21 VSS_5, D4 VSS_6, F21 VSS_7, H3 VSS_8, K21 VSS_9, P3 VSS_10, P21 VSS_11, R4 VREF+, V21 VSS_12, W3 VSS_13
part E pins: A16 DSI_CKN, A17 DSI_D1N, A19 JTDO-TRACE_SWO, A20 JTDI, AB13 BYPASS_REG_1V8, AB16 USB_DM2, AB17 USB_DM1, AB18 USB_RREF, AC16 USB_DP2, AC17 USB_DP1, AC19 OTG_VBUS, B15 DSI_D0N, B16 DSI_CKP, B17 DSI_D1P, B19 NJ_TRST, B20 JTCK-SWCLK, C15 DSI_D0P, C20 JTMS-SWDIO, M2 BOOT2, M3 NRST, M4 NRST__CORE, N1 BOOT0, N3 PWR_LP, N4 BOOT1, R2 PWR_ON, R3 PDR_ON, T3 PDR_ON_CORE, U3 ANA0, U4 ANA1
part F pins: A21 DDR_DQ20, A22 DDR_DQ23, AA20 DDR_DQM3, AA22 DDR_DQ31, AA23 DDR_DQ30, AB20 DDR_DQ27, AB21 DDR_DQ26, AB22 DDR_DQS3P, AB23 DDR_DQS3N, AC20 DDR_VREF, AC21 DDR_DQ29, AC22 DDR_DQ28, B21 DDR_DQ19, B22 DDR_DQ16, B23 DDR_DQS2N, C22 DDR_DQS2P, C23 DDR_DQM2, D20 DDR_RESET_N, D21 DDR_DQ22, D22 DDR_DQ17, D23 DDR_DQ18, E20 DDR_A7, E21 DDR_DQ3, E22 DDR_DQ0, E23 DDR_DQ21, F20 DDR_A13, F22 DDR_DQ1, G20 DDR_A9, G21 DDR_DQ7, G22 DDR_DQS0P, G23 DDR_DQS0N, H20 DDR_A5, H21 DDR_DQ2, H22 DDR_DQ6, H23 DDR_DQM0, J20 DDR_A2, J21 DDR_DQ4, J22 DDR_DQ5, K20 DDR_DTO0, K22 DDR_A3, K23 DDR_ZQ, L20 DDR_A0, L21 DDR_TO1, L22 DDR_ODT, L23 DDR_BA0, M20 DDR_WEN, M21 DDR_BA2, M22 DDR_CSN, N20 DDR_CASN, N21 DDR_RASN, N22 DDR_CLKP, N23 DDR_CLKN, P20 DDR_A15, P22 DDR_A1, P23 DDR_A12, R20 DDR_A11, R21 DDR_A14, R22 DDR_A10, T20 DDR_CKE, T21 DDR_DQ8, T22 DDR_DQ10, T23 DDR_DQ13, U20 DDR_BA1, U21 DDR_DQ9, U22 DDR_DQS1P, U23 DDR_DQS1N, V20 DDR_A4, V22 DDR_DQM1, W20 DDR_A6, W21 DDR_DQ11, W22 DDR_DQ14, W23 DDR_DQ12, Y19 DDR_ATO, Y20 DDR_A8, Y21 DDR_DQ15, Y22 DDR_DQ25, Y23 DDR_DQ24

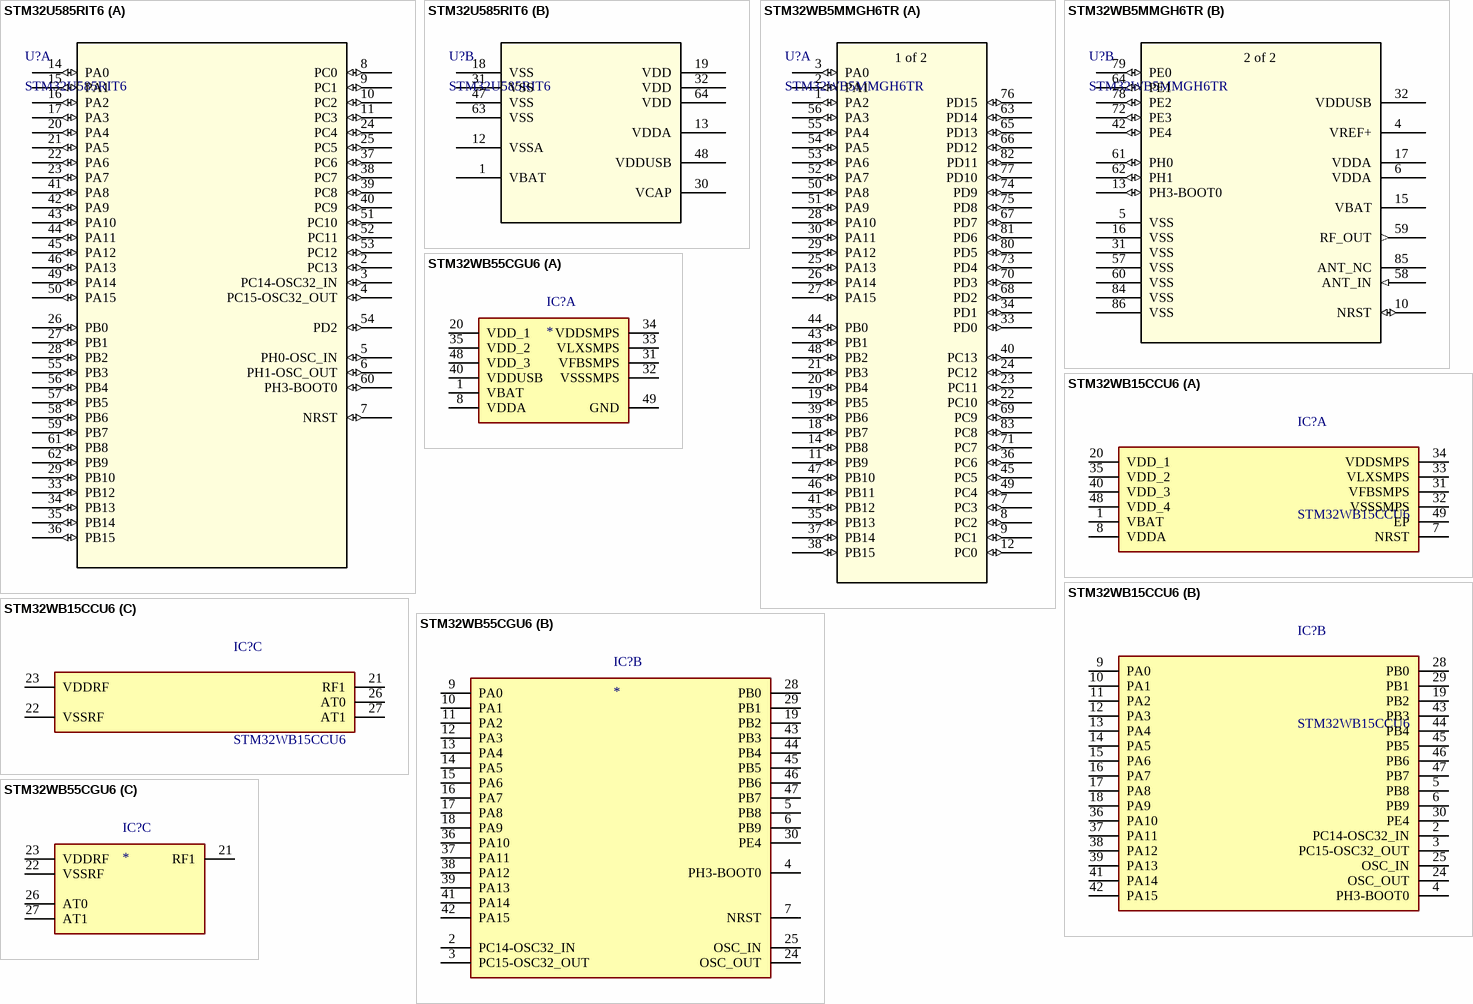
[diagram p15: symbols STM32U585RIT6 to STM32WB55CGU6]

## STM32U585RIT6
designator U?
MPU; Mfr_Name: STMicroelectronics; Copyright: Copyright (C) 2023 Ultra Librarian. All rights reserved.; Manufacturer_Part_Number: STM32U585RIT6; RefDes: RefDes; Type: DEV
footprint LQFP64
part A pins: 2 PC13 (io), 3 PC14-OSC32_IN (io), 4 PC15-OSC32_OUT (io), 5 PH0-OSC_IN (io), 6 PH1-OSC_OUT (io), 7 NRST (io), 8 PC0 (io), 9 PC1 (io), 10 PC2 (io), 11 PC3 (io), 14 PA0 (io), 15 PA1 (io), 16 PA2 (io), 17 PA3 (io), 20 PA4 (io), 21 PA5 (io), 22 PA6 (io), 23 PA7 (io), 24 PC4 (io), 25 PC5 (io), 26 PB0 (io), 27 PB1 (io), 28 PB2 (io), 29 PB10 (io), 33 PB12 (io), 34 PB13 (io), 35 PB14 (io), 36 PB15 (io), 37 PC6 (io), 38 PC7 (io), 39 PC8 (io), 40 PC9 (io), 41 PA8 (io), 42 PA9 (io), 43 PA10 (io), 44 PA11 (io), 45 PA12 (io), 46 PA13 (io), 49 PA14 (io), 50 PA15 (io), 51 PC10 (io), 52 PC11 (io), 53 PC12 (io), 54 PD2 (io), 55 PB3 (io), 56 PB4 (io), 57 PB5 (io), 58 PB6 (io), 59 PB7 (io), 60 PH3-BOOT0 (io), 61 PB8 (io), 62 PB9 (io)
part B pins: 1 VBAT (power), 12 VSSA (power), 13 VDDA (power), 18 VSS (power), 19 VDD (power), 30 VCAP (power), 31 VSS (power), 32 VDD (power), 47 VSS (power), 48 VDDUSB (power), 63 VSS (power), 64 VDD (power)

## STM32WB5MMGH6TR
designator U?
MCU+Wireless; Mfr_Name: STMicroelectronics; Copyright: Copyright (C) 2023 Ultra Librarian. All rights reserved.; Manufacturer_Part_Number: STM32WB5MMGH6TR; RefDes: RefDes; Type: Type
footprint LGA86-SIP
part A pins: 1 PA2 (io), 2 PA1 (io), 3 PA0 (io), 7 PC3 (io), 8 PC2 (io), 9 PC1 (io), 11 PB9 (io), 12 PC0 (io), 14 PB8 (io), 18 PB7 (io), 19 PB5 (io), 20 PB4 (io), 21 PB3 (io), 22 PC10 (io), 23 PC11 (io), 24 PC12 (io), 25 PA13 (io), 26 PA14 (io), 27 PA15 (io), 28 PA10 (io), 29 PA12 (io), 30 PA11 (io), 33 PD0 (io), 34 PD1 (io), 35 PB13 (io), 36 PC6 (io), 37 PB14 (io), 38 PB15 (io), 39 PB6 (io), 40 PC13 (io), 41 PB12 (io), 43 PB1 (io), 44 PB0 (io), 45 PC5 (io), 46 PB11 (io), 47 PB10 (io), 48 PB2 (io), 49 PC4 (io), 50 PA8 (io), 51 PA9 (io), 52 PA7 (io), 53 PA6 (io), 54 PA5 (io), 55 PA4 (io), 56 PA3 (io), 63 PD14 (io), 65 PD13 (io), 66 PD12 (io), 67 PD7 (io), 68 PD2 (io), 69 PC9 (io), 70 PD3 (io), 71 PC7 (io), 73 PD4 (io), 74 PD9 (io), 75 PD8 (io), 76 PD15 (io), 77 PD10 (io), 80 PD5 (io), 81 PD6 (io), 82 PD11 (io), 83 PC8 (io)
part B pins: 4 VREF+ (power), 5 VSS (power), 6 VDDA (power), 10 NRST (io), 13 PH3-BOOT0 (io), 15 VBAT (power), 16 VSS (power), 17 VDDA (power), 31 VSS (power), 32 VDDUSB (power), 42 PE4 (io), 57 VSS (power), 58 ANT_IN (in), 59 RF_OUT (out), 60 VSS (power), 61 PH0 (io), 62 PH1 (io), 64 PE1 (io), 72 PE3 (io), 78 PE2 (io), 79 PE0 (io), 84 VSS (power), 85 ANT_NC, 86 VSS (power)
part A text: 1 of 2
part B text: 2 of 2

## STM32WB15CCU6
designator IC?
MCU+Wireless; Manufacturer_Name: STMicroelectronics; Geometry.Height: 0.6mm; Manufacturer_Part_Number: STM32WB15CCU6; Mouser Part Number: 511-STM32WB15CCU6; Mouser Price/Stock: https://www.mouser.co.uk/ProductDetail/STMicroelectronics/STM32WB15CCU6?qs=DRkmTr78QATikAob%252BX8G8A%3D%3D; Arrow Part Number: STM32WB15CCU6; Arrow Price/Stock: https://www.arrow.com/en/products/stm32wb15ccu6/stmicroelectronics?region=nac; Datasheet Link: https://www.mouser.de/datasheet/2/389/dm00687952-2400695.pdf
footprint UFQFPN48
part A pins: 1 VBAT, 7 NRST, 8 VDDA, 20 VDD_1, 31 VFBSMPS, 32 VSSSMPS, 33 VLXSMPS, 34 VDDSMPS, 35 VDD_2, 40 VDD_3, 48 VDD_4, 49 EP
part B pins: 2 PC14-OSC32_IN, 3 PC15-OSC32_OUT, 4 PH3-BOOT0, 5 PB8, 6 PB9, 9 PA0, 10 PA1, 11 PA2, 12 PA3, 13 PA4, 14 PA5, 15 PA6, 16 PA7, 17 PA8, 18 PA9, 19 PB2, 24 OSC_OUT, 25 OSC_IN, 28 PB0, 29 PB1, 30 PE4, 36 PA10, 37 PA11, 38 PA12, 39 PA13, 41 PA14, 42 PA15, 43 PB3, 44 PB4, 45 PB5, 46 PB6, 47 PB7
part C pins: 21 RF1, 22 VSSRF, 23 VDDRF, 26 AT0, 27 AT1

## STM32WB55CGU6
designator IC?
Integrated Circuit; Manufacturer_Name: STMicroelectronics; Manufacturer_Part_Number: STM32WB55CGU6; Datasheet Link: https://www.st.com/en/microcontrollers/stm32wb55cg.html; Height: 0.6mm; Mouser Part Number: 511-STM32WB55CGU6; Mouser Price/Stock: https://www.mouser.co.uk/ProductDetail/STMicroelectronics/STM32WB55CGU6?qs=lYGu3FyN48eI3bRY%252B36gew%3D%3D; Arrow Part Number: STM32WB55CGU6; Arrow Price/Stock: https://www.arrow.com/en/products/stm32wb55cgu6/stmicroelectronics?region=nac
footprint QFN48
part A pins: 1 VBAT, 8 VDDA, 20 VDD_1, 31 VFBSMPS, 32 VSSSMPS, 33 VLXSMPS, 34 VDDSMPS, 35 VDD_2, 40 VDDUSB, 48 VDD_3, 49 GND
part B pins: 2 PC14-OSC32_IN, 3 PC15-OSC32_OUT, 4 PH3-BOOT0, 5 PB8, 6 PB9, 7 NRST, 9 PA0, 10 PA1, 11 PA2, 12 PA3, 13 PA4, 14 PA5, 15 PA6, 16 PA7, 17 PA8, 18 PA9, 19 PB2, 24 OSC_OUT, 25 OSC_IN, 28 PB0, 29 PB1, 30 PE4, 36 PA10, 37 PA11, 38 PA12, 39 PA13, 41 PA14, 42 PA15, 43 PB3, 44 PB4, 45 PB5, 46 PB6, 47 PB7
part C pins: 21 RF1, 22 VSSRF, 23 VDDRF, 26 AT0, 27 AT1

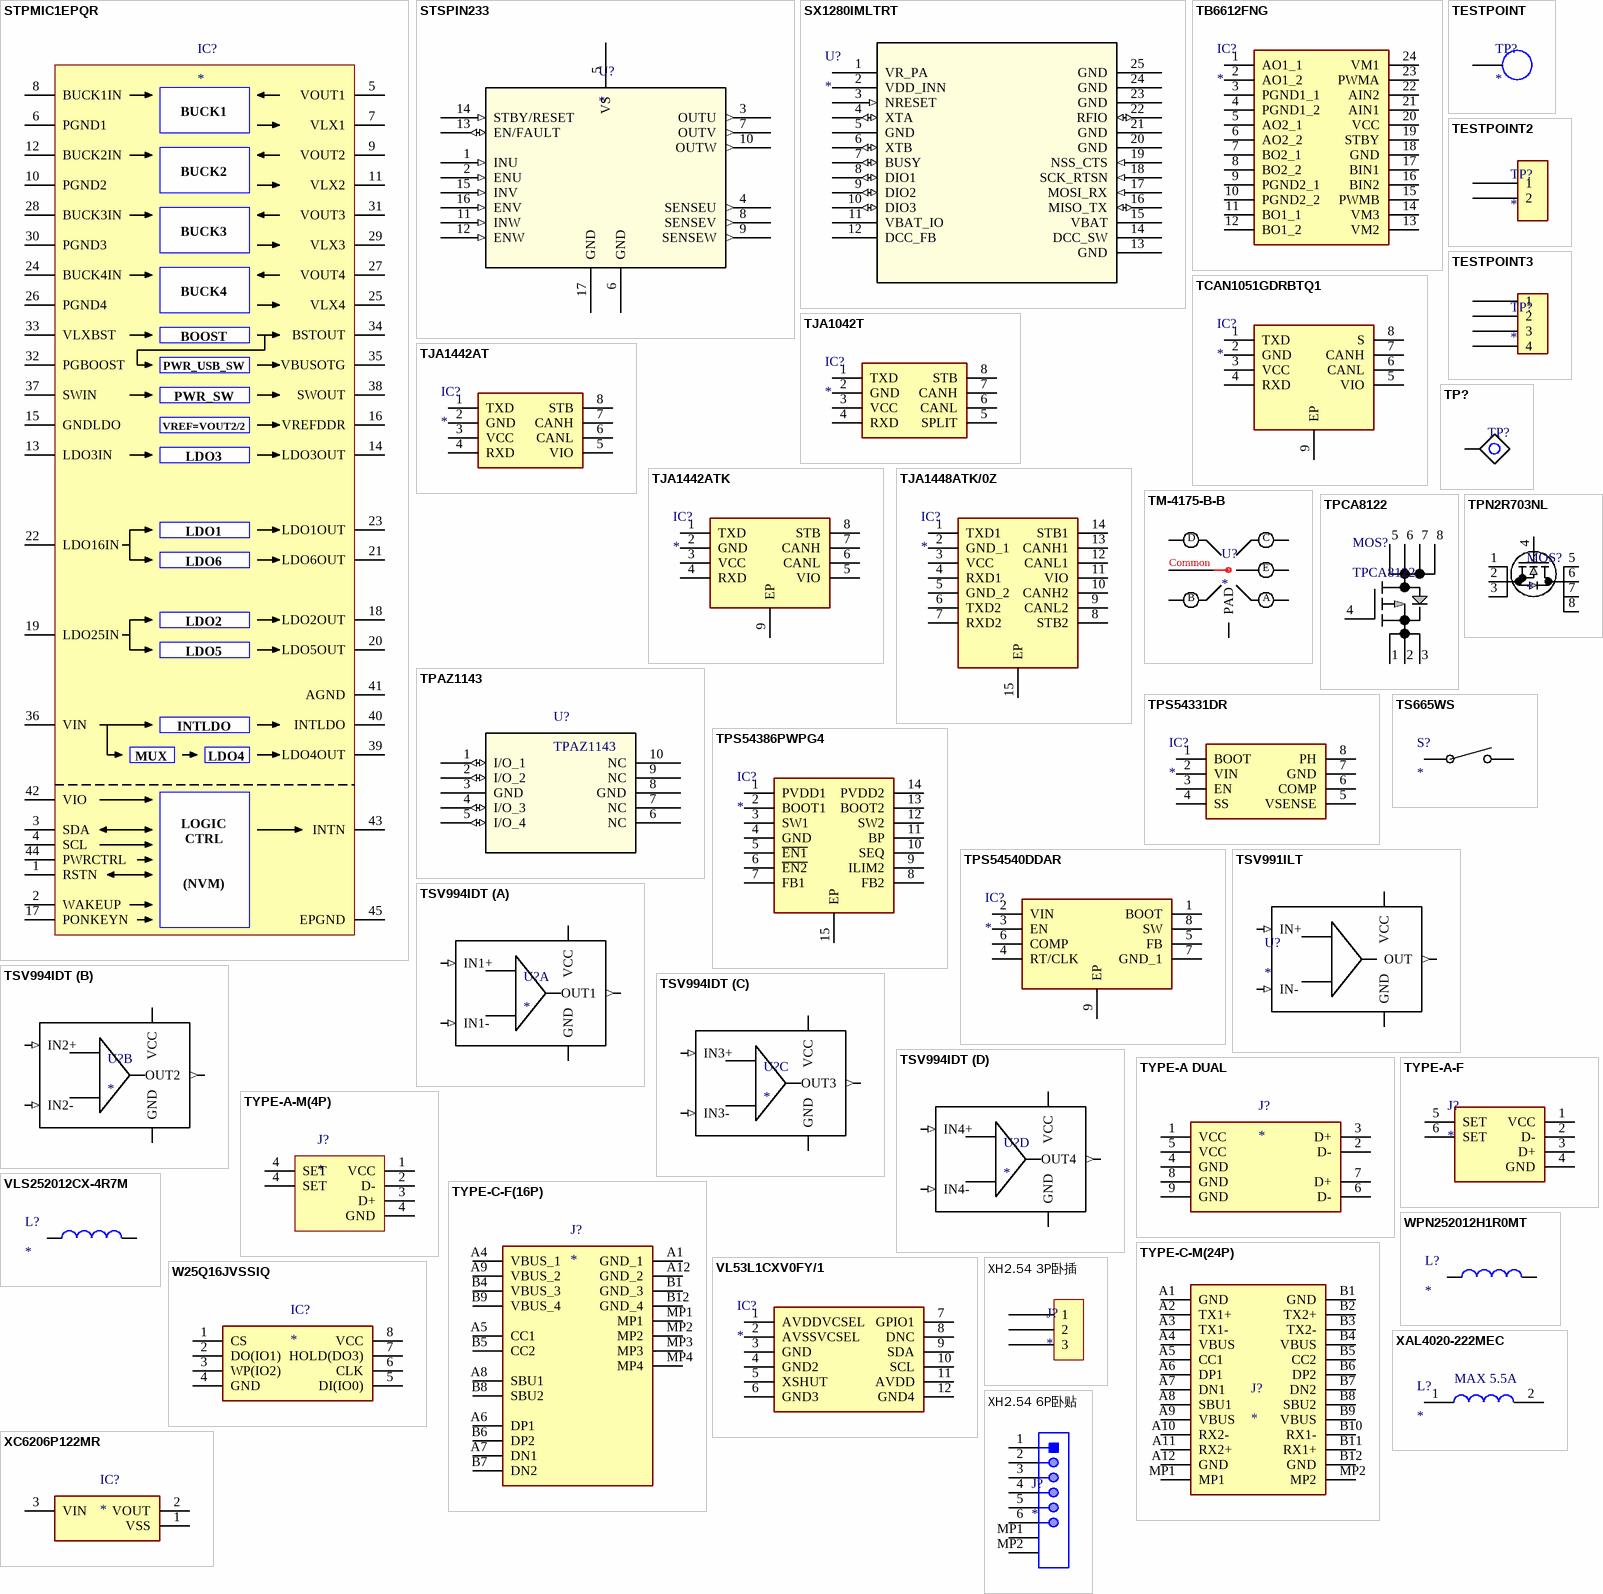
[diagram p16: symbols STPMIC1EPQR to XH2.54 6P卧贴]

## STPMIC1EPQR
designator IC?
Integrated Circuit; Manufacturer_Name: STMicroelectronics; Manufacturer_Part_Number: STPMIC1EPQR; Datasheet Link: https://www.arrow.com/en/products/stpmic1epqr/stmicroelectronics; Height: 0.8mm; Mouser Part Number: 511-STPMIC1EPQR; Mouser Price/Stock: https://www.mouser.co.uk/ProductDetail/STMicroelectronics/STPMIC1EPQR?qs=DPoM0jnrROUEouVjetqkFQ%3D%3D; Arrow Part Number: STPMIC1EPQR; Arrow Price/Stock: https://www.arrow.com/en/products/stpmic1epqr/stmicroelectronics?region=nac
footprint WFQFN44-L
pins: 1 RSTN, 2 WAKEUP, 3 SDA, 4 SCL, 5 VOUT1, 6 PGND1, 7 VLX1, 8 BUCK1IN, 9 VOUT2, 10 PGND2, 11 VLX2, 12 BUCK2IN, 13 LDO3IN, 14 LDO3OUT, 15 GNDLDO, 16 VREFDDR, 17 PONKEYN, 18 LDO2OUT, 19 LDO25IN, 20 LDO5OUT, 21 LDO6OUT, 22 LDO16IN, 23 LDO1OUT, 24 BUCK4IN, 25 VLX4, 26 PGND4, 27 VOUT4, 28 BUCK3IN, 29 VLX3, 30 PGND3, 31 VOUT3, 32 PGBOOST, 33 VLXBST, 34 BSTOUT, 35 VBUSOTG, 36 VIN, 37 SWIN, 38 SWOUT, 39 LDO4OUT, 40 INTLDO, 41 AGND, 42 VIO, 43 INTN, 44 PWRCTRL, 45 EPGND
text: BUCK1; BUCK2; BUCK3; BUCK4; BOOST; PWR_USB_SW; PWR_SW; VREF=VOUT2/2; LDO3; LDO1; LDO6; LDO2; LDO5; MUX; LDO4; LOGIC / CTRL / (NVM)

## STSPIN233
designator U?
No Description Available; Mfr_Name: STMicroelectronics; RefDes: RefDes; Type: Type
footprint VFQFPN16
pins: 1 INU (in), 2 ENU (in), 3 OUTU (out), 4 SENSEU (out), 5 VS (power), 6 GND (power), 7 OUTV (out), 8 SENSEV (out), 9 SENSEW (out), 10 OUTW (out), 11 INW (in), 12 ENW (in), 13 EN/FAULT (io), 14 STBY/RESET (in), 15 INV (in), 16 ENV (in), 17 GND (power)

## SX1280IMLTRT
designator U?
No Description Available; Mfr_Name: Semtech; RefDes: RefDes; Type: Type
footprint SX1280 (Footprint not found)
pins: 1 VR_PA (power), 2 VDD_INN (power), 3 NRESET (in), 4 XTA (io), 5 GND (power), 6 XTB (io), 7 BUSY (io), 8 DIO1 (io), 9 DIO2 (io), 10 DIO3 (io), 11 VBAT_IO (power), 12 DCC_FB, 13 GND (power), 14 DCC_SW, 15 VBAT (power), 16 MISO_TX (io), 17 MOSI_RX (in), 18 SCK_RTSN (in), 19 NSS_CTS (in), 20 GND (power), 21 GND (power), 22 RFIO (io), 23 GND (power), 24 GND (power), 25 GND (power)

## TB6612FNG
designator IC?
Integrated Circuit; Manufacturer_Name: Toshiba; Manufacturer_Part_Number: TB6612FNG; Datasheet Link: https://datasheet.datasheetarchive.com/originals/distributors/SFDatasheet-6/sf-000138015.pdf; Height: 1.6mm
footprint TB6612FNG
pins: 1 AO1_1, 2 AO1_2, 3 PGND1_1, 4 PGND1_2, 5 AO2_1, 6 AO2_2, 7 BO2_1, 8 BO2_2, 9 PGND2_1, 10 PGND2_2, 11 BO1_1, 12 BO1_2, 13 VM2, 14 VM3, 15 PWMB, 16 BIN2, 17 BIN1, 18 GND, 19 STBY, 20 VCC, 21 AIN1, 22 AIN2, 23 PWMA, 24 VM1

## TCAN1051GDRBTQ1
designator IC?
Integrated Circuit; Manufacturer_Name: Texas Instruments; Manufacturer_Part_Number: TCAN1051GDRBTQ1; Datasheet Link: http://www.ti.com/lit/gpn/tcan1051g-q1; Height: 1mm; Mouser Part Number: 595-TCAN1051GDRBTQ1; Mouser Price/Stock: https://www.mouser.com/Search/Refine.aspx?Keyword=595-TCAN1051GDRBTQ1; Arrow Part Number: TCAN1051GDRBTQ1; Arrow Price/Stock: https://www.arrow.com/en/products/tcan1051gdrbtq1/texas-instruments
footprint TCAN1051GDRBTQ1
pins: 1 TXD, 2 GND, 3 VCC, 4 RXD, 5 VIO, 6 CANL, 7 CANH, 8 S, 9 EP

## TESTPOINT
designator TP?
TestPoint
footprint TESTPOINT1
pins: 1

## TESTPOINT2
designator TP?
TestPoint
footprint TESTPOINT2
pins: 1, 2

## TESTPOINT3
designator TP?
TestPoint
footprint TESTPOINT3
pins: 1, 2, 3, 4

## TJA1042T
designator IC?
Integrated Circuit; Manufacturer_Name: NXP; Manufacturer_Part_Number: TJA1442AT/0Z; Datasheet Link: https://www.nxp.com/docs/en/data-sheet/TJR1442.pdf; Height: 1.75mm
footprint SOIC-8
pins: 1 TXD, 2 GND, 3 VCC, 4 RXD, 5 SPLIT, 6 CANL, 7 CANH, 8 STB